# Altium schematic symbol library SparkFun-RF.SCHLIB: 105 symbols (part 2 of 2)
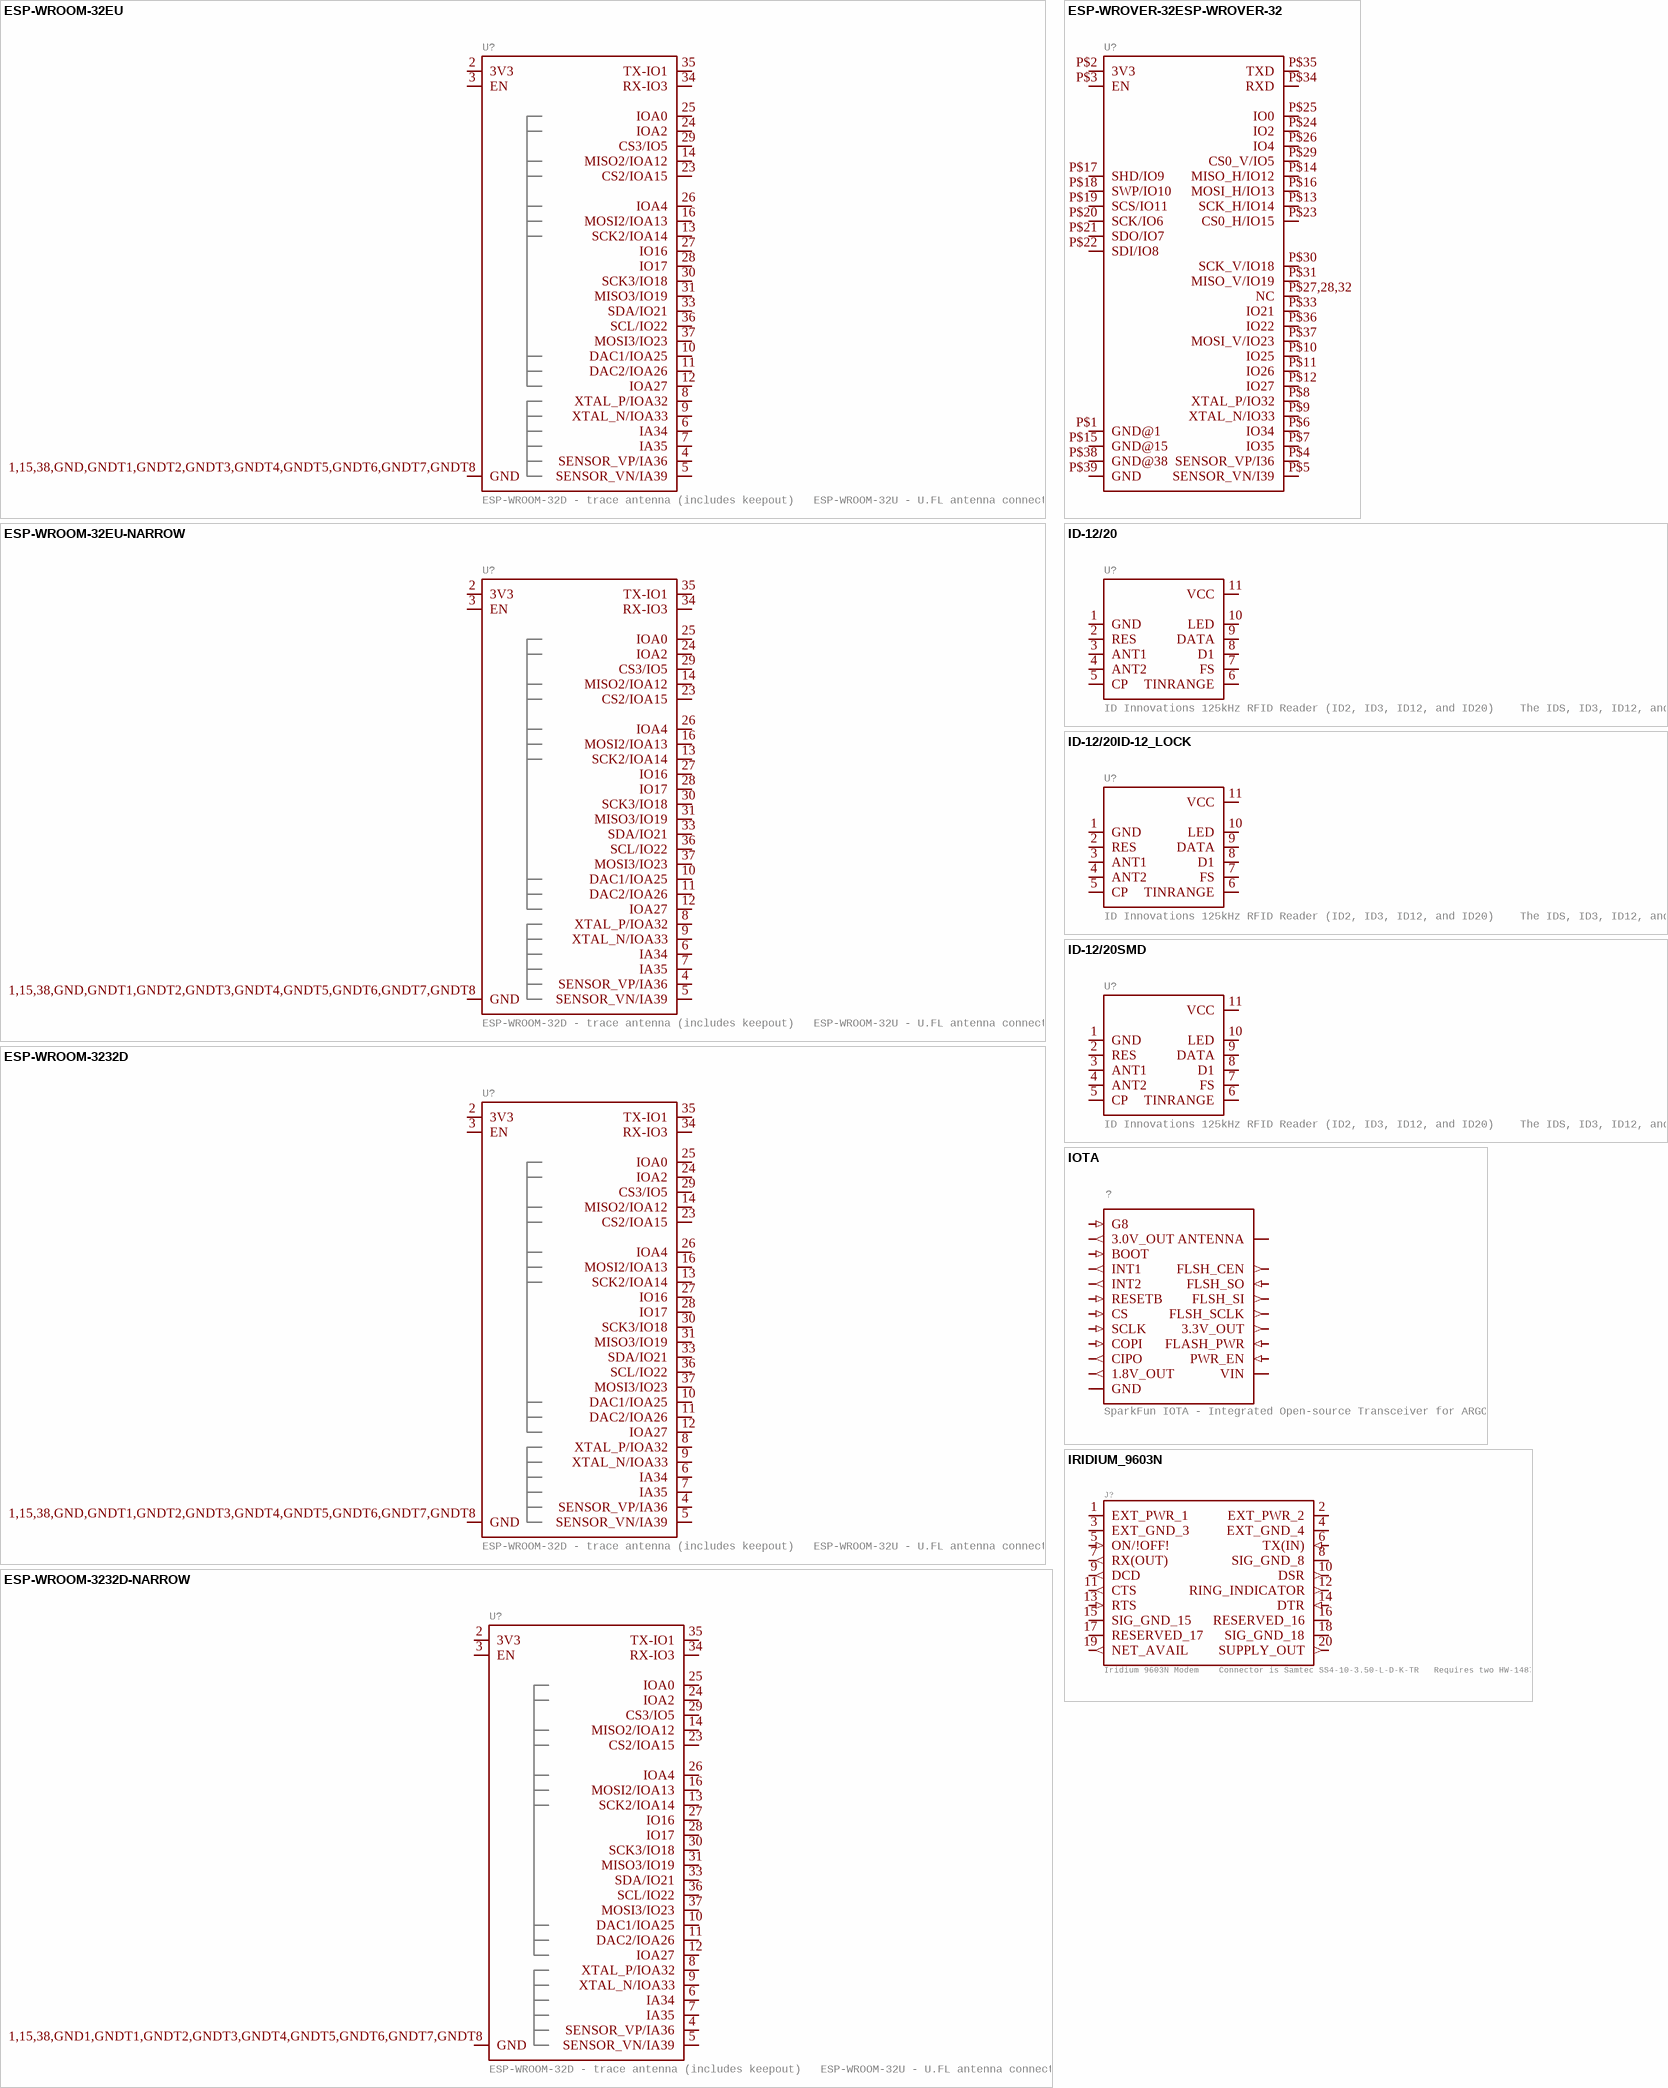
[diagram p11: symbols ESP-WROOM-32EU to IRIDIUM_9603N]

## ESP-WROOM-32EU
designator U?, comment ESP-WROOM-32D - trace antenna (includes keepout)   ESP-WROOM-32U - U.FL antenna connector   Includes both "standard" footprints and "narrow" version (for use with tighter layouts).
GateName_1: U1; DeviceName: EU; PROD_ID: IC-15442; SymbolName_1: ESP-WROOM-32; LibraryName: SparkFun-RF; DeviceSetName: ESP-WROOM-32; Package: ESP-WROOM-32EU
footprint ESP-WROOM-32EU
pins: 1,15,38,GND,GNDT1,GNDT2,GNDT3,GNDT4,GNDT5,GNDT6,GNDT7,GNDT8 GND (io), 2 3V3 (io), 3 EN (io), 4 SENSOR_VP/IA36 (io), 5 SENSOR_VN/IA39 (io), 6 IA34 (io), 7 IA35 (io), 8 XTAL_P/IOA32 (io), 9 XTAL_N/IOA33 (io), 10 DAC1/IOA25 (io), 11 DAC2/IOA26 (io), 12 IOA27 (io), 13 SCK2/IOA14 (io), 14 MISO2/IOA12 (io), 16 MOSI2/IOA13 (io), 23 CS2/IOA15 (io), 24 IOA2 (io), 25 IOA0 (io), 26 IOA4 (io), 27 IO16 (io), 28 IO17 (io), 29 CS3/IO5 (io), 30 SCK3/IO18 (io), 31 MISO3/IO19 (io), 33 SDA/IO21 (io), 34 RX-IO3 (io), 35 TX-IO1 (io), 36 SCL/IO22 (io), 37 MOSI3/IO23 (io)

## ESP-WROOM-32EU-NARROW
designator U?, comment ESP-WROOM-32D - trace antenna (includes keepout)   ESP-WROOM-32U - U.FL antenna connector   Includes both "standard" footprints and "narrow" version (for use with tighter layouts).
GateName_1: U1; DeviceName: EU-NARROW; PROD_ID: IC-15442; SymbolName_1: ESP-WROOM-32; LibraryName: SparkFun-RF; DeviceSetName: ESP-WROOM-32; Package: ESP-WROOM-32EU-NARROW
footprint ESP-WROOM-32EU-NARROW
pins: 1,15,38,GND,GNDT1,GNDT2,GNDT3,GNDT4,GNDT5,GNDT6,GNDT7,GNDT8 GND (io), 2 3V3 (io), 3 EN (io), 4 SENSOR_VP/IA36 (io), 5 SENSOR_VN/IA39 (io), 6 IA34 (io), 7 IA35 (io), 8 XTAL_P/IOA32 (io), 9 XTAL_N/IOA33 (io), 10 DAC1/IOA25 (io), 11 DAC2/IOA26 (io), 12 IOA27 (io), 13 SCK2/IOA14 (io), 14 MISO2/IOA12 (io), 16 MOSI2/IOA13 (io), 23 CS2/IOA15 (io), 24 IOA2 (io), 25 IOA0 (io), 26 IOA4 (io), 27 IO16 (io), 28 IO17 (io), 29 CS3/IO5 (io), 30 SCK3/IO18 (io), 31 MISO3/IO19 (io), 33 SDA/IO21 (io), 34 RX-IO3 (io), 35 TX-IO1 (io), 36 SCL/IO22 (io), 37 MOSI3/IO23 (io)

## ESP-WROOM-3232D
designator U?, comment ESP-WROOM-32D - trace antenna (includes keepout)   ESP-WROOM-32U - U.FL antenna connector   Includes both "standard" footprints and "narrow" version (for use with tighter layouts).
GateName_1: U1; DeviceName: 32D; PROD_ID: IC-15676; SymbolName_1: ESP-WROOM-32; LibraryName: SparkFun-RF; DeviceSetName: ESP-WROOM-32; Package: ESP-WROOM-32D
footprint ESP-WROOM-32D
pins: 1,15,38,GND,GNDT1,GNDT2,GNDT3,GNDT4,GNDT5,GNDT6,GNDT7,GNDT8 GND (io), 2 3V3 (io), 3 EN (io), 4 SENSOR_VP/IA36 (io), 5 SENSOR_VN/IA39 (io), 6 IA34 (io), 7 IA35 (io), 8 XTAL_P/IOA32 (io), 9 XTAL_N/IOA33 (io), 10 DAC1/IOA25 (io), 11 DAC2/IOA26 (io), 12 IOA27 (io), 13 SCK2/IOA14 (io), 14 MISO2/IOA12 (io), 16 MOSI2/IOA13 (io), 23 CS2/IOA15 (io), 24 IOA2 (io), 25 IOA0 (io), 26 IOA4 (io), 27 IO16 (io), 28 IO17 (io), 29 CS3/IO5 (io), 30 SCK3/IO18 (io), 31 MISO3/IO19 (io), 33 SDA/IO21 (io), 34 RX-IO3 (io), 35 TX-IO1 (io), 36 SCL/IO22 (io), 37 MOSI3/IO23 (io)

## ESP-WROOM-3232D-NARROW
designator U?, comment ESP-WROOM-32D - trace antenna (includes keepout)   ESP-WROOM-32U - U.FL antenna connector   Includes both "standard" footprints and "narrow" version (for use with tighter layouts).
GateName_1: U1; DeviceName: 32D-NARROW; PROD_ID: IC-15676; SymbolName_1: ESP-WROOM-32; LibraryName: SparkFun-RF; DeviceSetName: ESP-WROOM-32; Package: ESP-WROOM-32D-NARROW
footprint ESP-WROOM-32D-NARROW
pins: 1,15,38,GND1,GNDT1,GNDT2,GNDT3,GNDT4,GNDT5,GNDT6,GNDT7,GNDT8 GND (io), 2 3V3 (io), 3 EN (io), 4 SENSOR_VP/IA36 (io), 5 SENSOR_VN/IA39 (io), 6 IA34 (io), 7 IA35 (io), 8 XTAL_P/IOA32 (io), 9 XTAL_N/IOA33 (io), 10 DAC1/IOA25 (io), 11 DAC2/IOA26 (io), 12 IOA27 (io), 13 SCK2/IOA14 (io), 14 MISO2/IOA12 (io), 16 MOSI2/IOA13 (io), 23 CS2/IOA15 (io), 24 IOA2 (io), 25 IOA0 (io), 26 IOA4 (io), 27 IO16 (io), 28 IO17 (io), 29 CS3/IO5 (io), 30 SCK3/IO18 (io), 31 MISO3/IO19 (io), 33 SDA/IO21 (io), 34 RX-IO3 (io), 35 TX-IO1 (io), 36 SCL/IO22 (io), 37 MOSI3/IO23 (io)

## ESP-WROVER-32ESP-WROVER-32
designator U?
GateName_1: G$1; SymbolName_1: ESP-WROVER-32; DeviceName: ESP-WROVER-32; LibraryName: SparkFun-RF; DeviceSetName: ESP-WROVER-32; Package: ESP-WROVER-32
footprint ESP-WROVER-32
pins: P$1 GND@1 (io), P$2 3V3 (io), P$3 EN (io), P$4 SENSOR_VP/I36 (io), P$5 SENSOR_VN/I39 (io), P$6 IO34 (io), P$7 IO35 (io), P$8 XTAL_P/IO32 (io), P$9 XTAL_N/IO33 (io), P$10 IO25 (io), P$11 IO26 (io), P$12 IO27 (io), P$13 SCK_H/IO14 (io), P$14 MISO_H/IO12 (io), P$15 GND@15 (io), P$16 MOSI_H/IO13 (io), P$17 SHD/IO9 (io), P$18 SWP/IO10 (io), P$19 SCS/IO11 (io), P$20 SCK/IO6 (io), P$21 SDO/IO7 (io), P$22 SDI/IO8 (io), P$23 CS0_H/IO15 (io), P$24 IO2 (io), P$25 IO0 (io), P$26 IO4 (io), P$27,28,32 NC (io), P$29 CS0_V/IO5 (io), P$30 SCK_V/IO18 (io), P$31 MISO_V/IO19 (io), P$33 IO21 (io), P$34 RXD (io), P$35 TXD (io), P$36 IO22 (io), P$37 MOSI_V/IO23 (io), P$38 GND@38 (io), P$39 GND (io)

## ID-12/20
designator U?, comment ID Innovations 125kHz RFID Reader (ID2, ID3, ID12, and ID20)    The IDS, ID3, ID12, and ID20 are very simple to use RFID reader modules. Power the module, hold up a 125kHz card, and get a serial string output containing the unique ID of the card.   SparkFun Products RFID Reader ID-3LA (125 kHz) (SEN-11862)  RFID Reader ID-12LA (125 kHz) (SEN-11827)  RFID Reader ID-20LA (125 kHz) (SEN-11828)  SparkFun RFID USB Reader (SEN-9963)
GateName_1: G$1; SymbolName_1: ID-12; DeviceSetName: ID-12/20; PROD_ID: CONN-08875; LibraryName: SparkFun-RF; Package: ID-12
footprint ID-12
pins: 1 GND (io), 2 RES (io), 3 ANT1 (io), 4 ANT2 (io), 5 CP (io), 6 TINRANGE (io), 7 FS (io), 8 D1 (io), 9 DATA (io), 10 LED (io), 11 VCC (io)

## ID-12/20ID-12_LOCK
designator U?, comment ID Innovations 125kHz RFID Reader (ID2, ID3, ID12, and ID20)    The IDS, ID3, ID12, and ID20 are very simple to use RFID reader modules. Power the module, hold up a 125kHz card, and get a serial string output containing the unique ID of the card.   SparkFun Products RFID Reader ID-3LA (125 kHz) (SEN-11862)  RFID Reader ID-12LA (125 kHz) (SEN-11827)  RFID Reader ID-20LA (125 kHz) (SEN-11828)  SparkFun RFID USB Reader (SEN-9963)
GateName_1: G$1; SymbolName_1: ID-12; DeviceName: ID-12_LOCK; DeviceSetName: ID-12/20; PROD_ID: CONN-08875; LibraryName: SparkFun-RF; Package: ID-12_LOCK
footprint ID-12_LOCK
pins: 1 GND (io), 2 RES (io), 3 ANT1 (io), 4 ANT2 (io), 5 CP (io), 6 TINRANGE (io), 7 FS (io), 8 D1 (io), 9 DATA (io), 10 LED (io), 11 VCC (io)

## ID-12/20SMD
designator U?, comment ID Innovations 125kHz RFID Reader (ID2, ID3, ID12, and ID20)    The IDS, ID3, ID12, and ID20 are very simple to use RFID reader modules. Power the module, hold up a 125kHz card, and get a serial string output containing the unique ID of the card.   SparkFun Products RFID Reader ID-3LA (125 kHz) (SEN-11862)  RFID Reader ID-12LA (125 kHz) (SEN-11827)  RFID Reader ID-20LA (125 kHz) (SEN-11828)  SparkFun RFID USB Reader (SEN-9963)
GateName_1: G$1; SymbolName_1: ID-12; DeviceName: SMD; DeviceSetName: ID-12/20; PROD_ID: CONN-09345, CONN-09344; LibraryName: SparkFun-RF; Package: ID-12_SMD
footprint ID-12_SMD
pins: 1 GND (io), 2 RES (io), 3 ANT1 (io), 4 ANT2 (io), 5 CP (io), 6 TINRANGE (io), 7 FS (io), 8 D1 (io), 9 DATA (io), 10 LED (io), 11 VCC (io)

## IOTA
designator ?, comment SparkFun IOTA - Integrated Open-source Transceiver for ARGOS
GateName_1: G$1; PROD_ID: SUB-15839; SymbolName_1: IOTA; LibraryName: SparkFun-RF; DeviceSetName: IOTA; Package: IOTA
footprint IOTA
pins: 1 G8 (in), 2 3.0V_OUT (out), 3 BOOT (in), 4 INT1 (out), 5 INT2 (out), 6 RESETB (in), 7 CS (in), 8 SCLK (in), 9 COPI (in), 10 CIPO (out), 11 1.8V_OUT (out), 12,13,22,24 GND (power), 14 VIN (power), 15 PWR_EN (in), 16 FLASH_PWR (in), 17 3.3V_OUT (out), 18 FLSH_SCLK (out), 19 FLSH_SI (out), 20 FLSH_SO (in), 21 FLSH_CEN (out), 23 ANTENNA (io)

## IRIDIUM_9603N
designator J?, comment Iridium 9603N Modem    Connector is Samtec SS4-10-3.50-L-D-K-TR   Requires two HW-14879 M2x0.4 6mm-tall reflow standoffs. The position of the standoffs is shown on the footprint tDocu.
GateName_1: G$1; SymbolName_1: IRIDIUM_9603N; PROD_ID: CONN-14689; LibraryName: SparkFun-RF; DeviceSetName: IRIDIUM_9603N; Package: IRIDIUM_9603N
footprint IRIDIUM_9603N
pins: 1 EXT_PWR_1 (power), 2 EXT_PWR_2 (power), 3 EXT_GND_3 (power), 4 EXT_GND_4 (power), 5 ON/!OFF! (in), 6 TX(IN) (in), 7 RX(OUT) (out), 8 SIG_GND_8 (power), 9 DCD (out), 10 DSR (out), 11 CTS (out), 12 RING_INDICATOR (out), 13 RTS (in), 14 DTR (in), 15 SIG_GND_15 (power), 16 RESERVED_16, 17 RESERVED_17, 18 SIG_GND_18 (power), 19 NET_AVAIL (out), 20 SUPPLY_OUT (out)

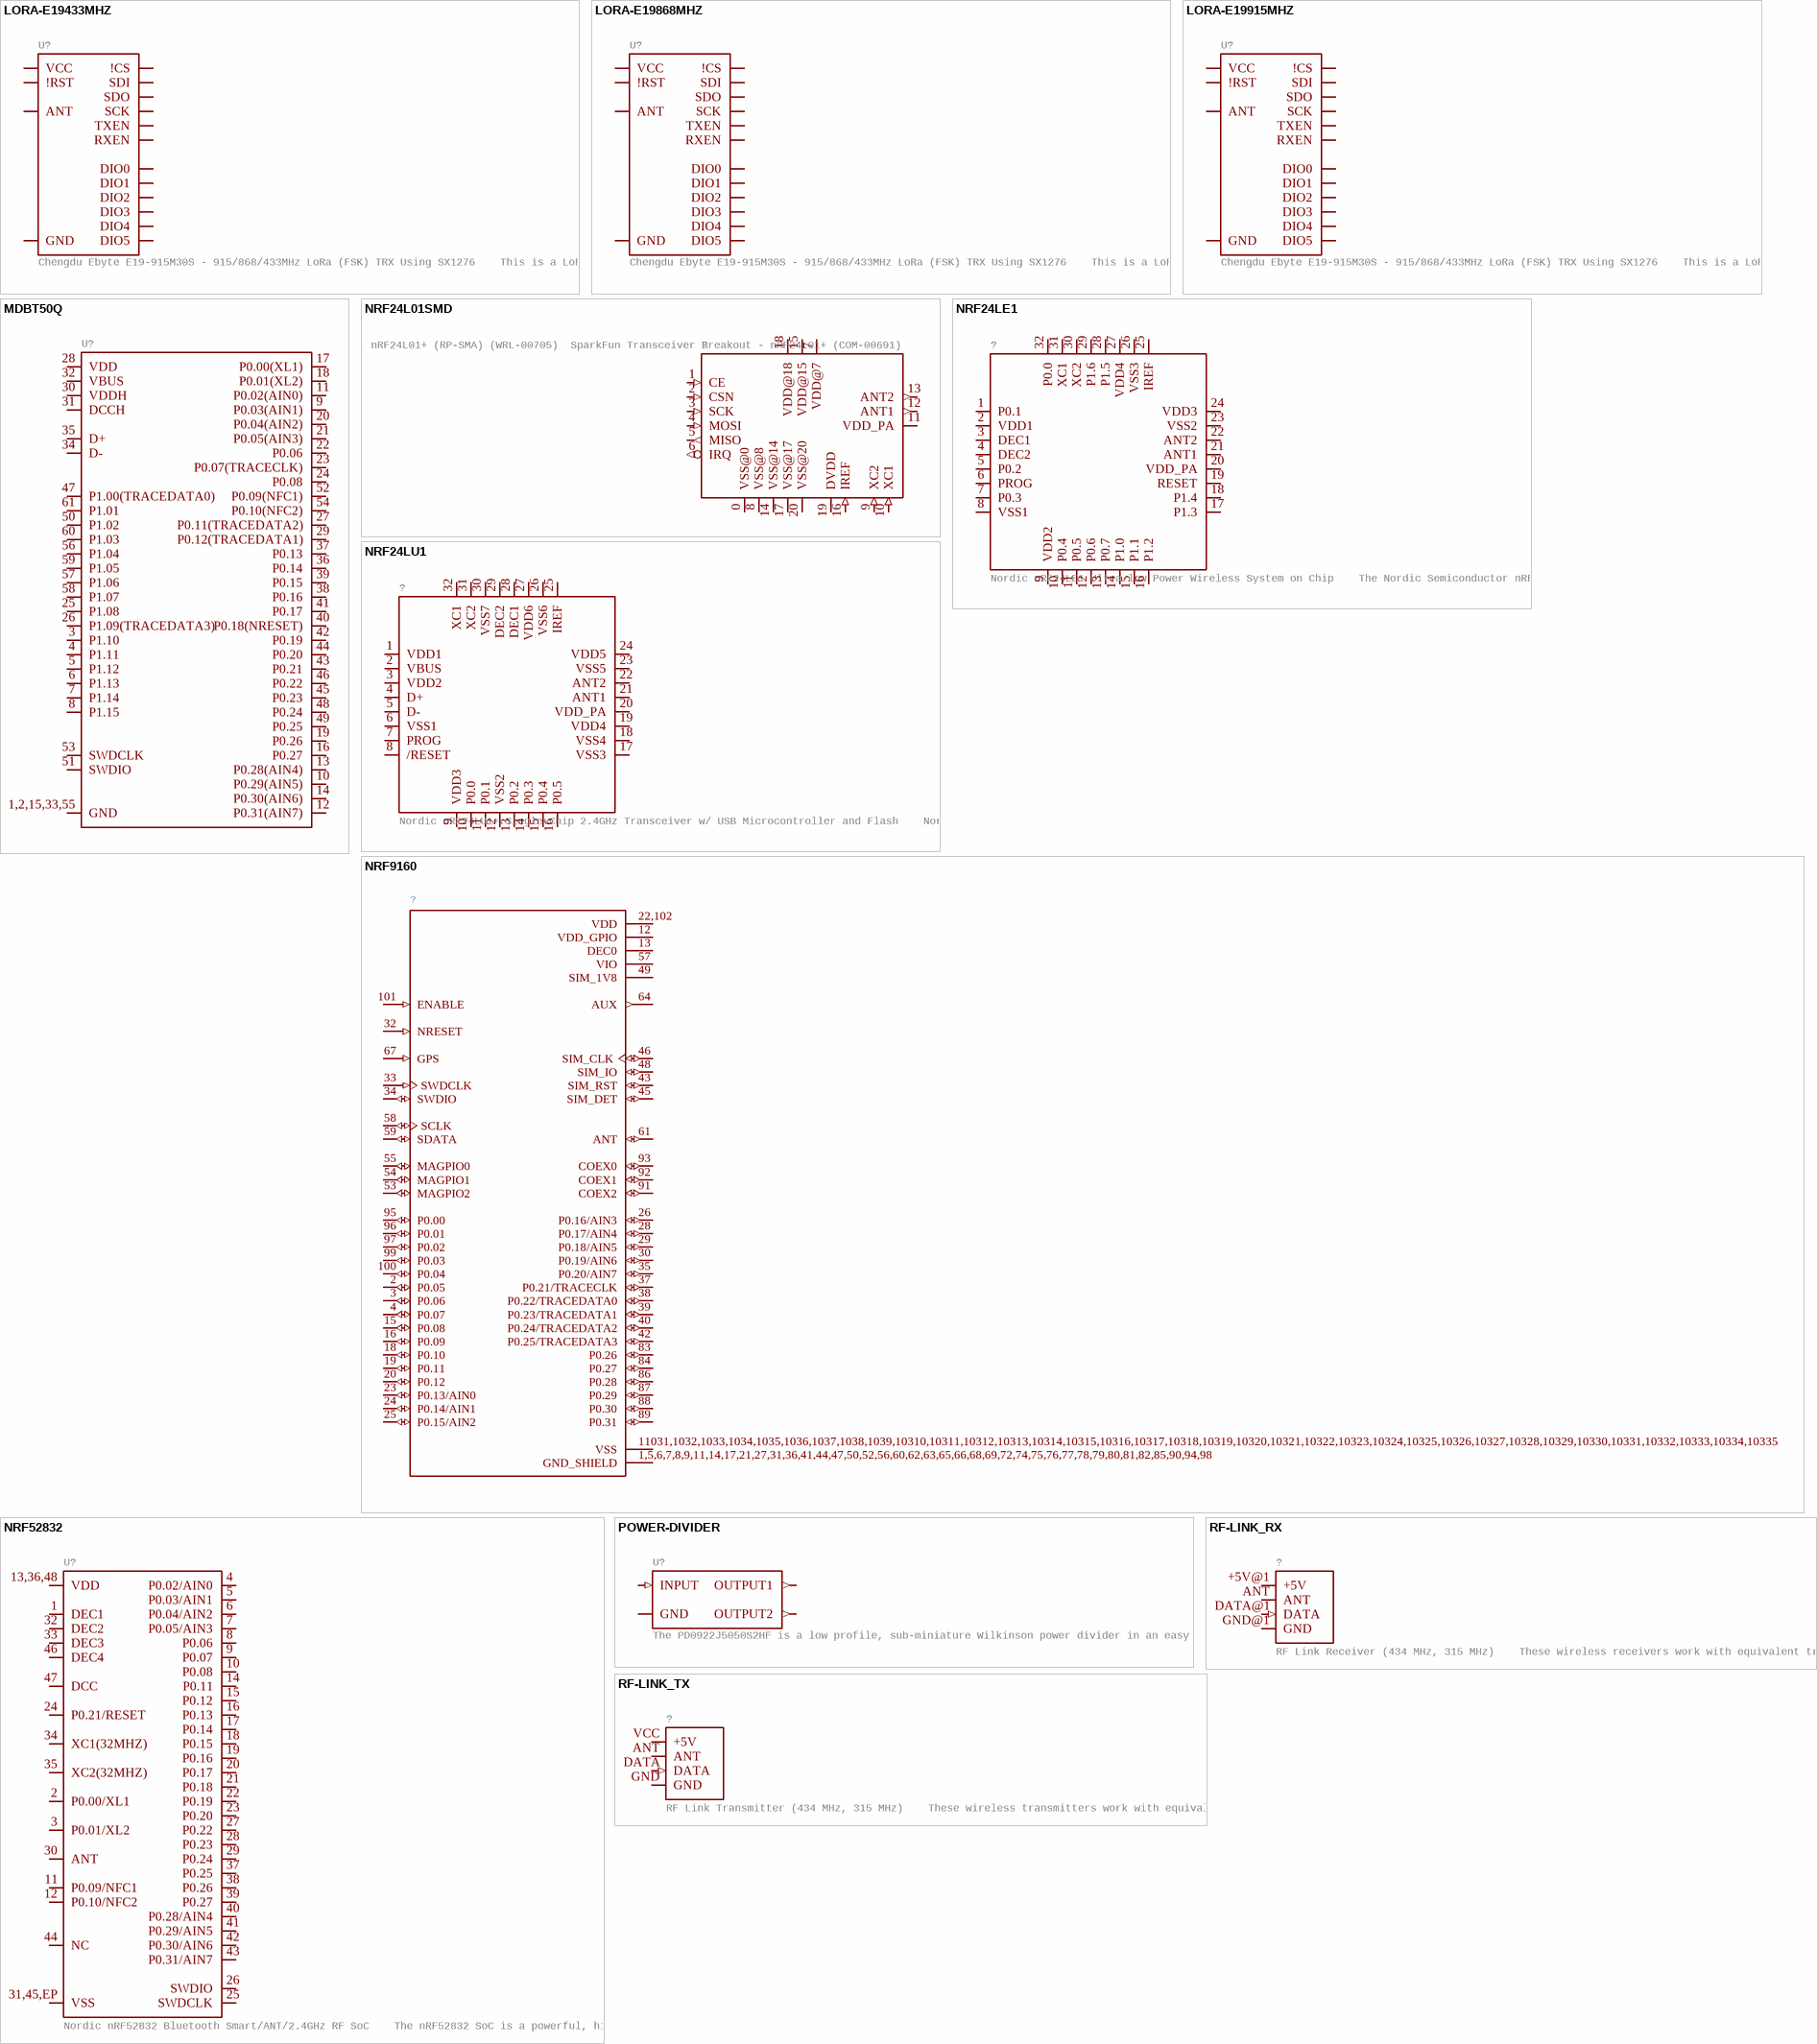
[diagram p7: symbols LORA-E19433MHZ to RF-LINK_TX]

## LORA-E19433MHZ
designator U?, comment Chengdu Ebyte E19-915M30S - 915/868/433MHz LoRa (FSK) TRX Using SX1276    This is a LoRa (or optionally FSK) modulated transciver bassed on the Semtech SX1276. It has a high ouput power of 1W an a pre-installed U.FL connector. Can be used with LoRa WAN with DIO0, DIO1, and DIO2 hooked up to controller interrupt inputs   SparkFun Products: SAMD21 Pro RF 1W
GateName_1: U1; DeviceName: 433MHZ; DeviceSetName: LORA-E19; PROD_ID: IC-16574; SymbolName_1: E19-915M30S; LibraryName: SparkFun-RF; Package: E19-433M30S
footprint E19-433M30S
pins: 1,9,10,18,20,21,22 GND (io), 2 DIO5 (io), 3 DIO4 (io), 4 DIO3 (io), 5 DIO2 (io), 6 DIO1 (io), 7 DIO0 (io), 8 !RST (io), 11 VCC (io), 12 SCK (io), 13 SDO (io), 14 SDI (io), 15 !CS (io), 16 TXEN (io), 17 RXEN (io), 19 ANT (io)

## LORA-E19868MHZ
designator U?, comment Chengdu Ebyte E19-915M30S - 915/868/433MHz LoRa (FSK) TRX Using SX1276    This is a LoRa (or optionally FSK) modulated transciver bassed on the Semtech SX1276. It has a high ouput power of 1W an a pre-installed U.FL connector. Can be used with LoRa WAN with DIO0, DIO1, and DIO2 hooked up to controller interrupt inputs   SparkFun Products: SAMD21 Pro RF 1W
GateName_1: U1; DeviceName: 868MHZ; DeviceSetName: LORA-E19; PROD_ID: IC-16573; SymbolName_1: E19-915M30S; LibraryName: SparkFun-RF; Package: E19-915M30S
footprint E19-915M30S
pins: 1,9,10,18,20,21,22 GND (io), 2 DIO5 (io), 3 DIO4 (io), 4 DIO3 (io), 5 DIO2 (io), 6 DIO1 (io), 7 DIO0 (io), 8 !RST (io), 11 VCC (io), 12 SCK (io), 13 SDO (io), 14 SDI (io), 15 !CS (io), 16 TXEN (io), 17 RXEN (io), 19 ANT (io)

## LORA-E19915MHZ
designator U?, comment Chengdu Ebyte E19-915M30S - 915/868/433MHz LoRa (FSK) TRX Using SX1276    This is a LoRa (or optionally FSK) modulated transciver bassed on the Semtech SX1276. It has a high ouput power of 1W an a pre-installed U.FL connector. Can be used with LoRa WAN with DIO0, DIO1, and DIO2 hooked up to controller interrupt inputs   SparkFun Products: SAMD21 Pro RF 1W
GateName_1: U1; DeviceName: 915MHZ; DeviceSetName: LORA-E19; PROD_ID: IC-14076; SymbolName_1: E19-915M30S; LibraryName: SparkFun-RF; Package: E19-915M30S
footprint E19-915M30S
pins: 1,9,10,18,20,21,22 GND (io), 2 DIO5 (io), 3 DIO4 (io), 4 DIO3 (io), 5 DIO2 (io), 6 DIO1 (io), 7 DIO0 (io), 8 !RST (io), 11 VCC (io), 12 SCK (io), 13 SDO (io), 14 SDI (io), 15 !CS (io), 16 TXEN (io), 17 RXEN (io), 19 ANT (io)

## MDBT50Q
designator U?
GateName_1: G$1; SymbolName_1: MDBT50Q; PROD_ID: IC-14109; LibraryName: SparkFun-RF; DeviceSetName: MDBT50Q; Package: MDBT50Q
footprint MDBT50Q
pins: 1,2,15,33,55 GND (io), 3 P1.10 (io), 4 P1.11 (io), 5 P1.12 (io), 6 P1.13 (io), 7 P1.14 (io), 8 P1.15 (io), 9 P0.03(AIN1) (io), 10 P0.29(AIN5) (io), 11 P0.02(AIN0) (io), 12 P0.31(AIN7) (io), 13 P0.28(AIN4) (io), 14 P0.30(AIN6) (io), 16 P0.27 (io), 17 P0.00(XL1) (io), 18 P0.01(XL2) (io), 19 P0.26 (io), 20 P0.04(AIN2) (io), 21 P0.05(AIN3) (io), 22 P0.06 (io), 23 P0.07(TRACECLK) (io), 24 P0.08 (io), 25 P1.08 (io), 26 P1.09(TRACEDATA3) (io), 27 P0.11(TRACEDATA2) (io), 28 VDD (io), 29 P0.12(TRACEDATA1) (io), 30 VDDH (io), 31 DCCH (io), 32 VBUS (io), 34 D- (io), 35 D+ (io), 36 P0.14 (io), 37 P0.13 (io), 38 P0.16 (io), 39 P0.15 (io), 40 P0.18(NRESET) (io), 41 P0.17 (io), 42 P0.19 (io), 43 P0.21 (io), 44 P0.20 (io), 45 P0.23 (io), 46 P0.22 (io), 47 P1.00(TRACEDATA0) (io), 48 P0.24 (io), 49 P0.25 (io), 50 P1.02 (io), 51 SWDIO (io), 52 P0.09(NFC1) (io), 53 SWDCLK (io), 54 P0.10(NFC2) (io), 56 P1.04 (io), 57 P1.06 (io), 58 P1.07 (io), 59 P1.05 (io), 60 P1.03 (io), 61 P1.01 (io)

## NRF24L01SMD
designator ?, comment Nordic nrf24L01 2.4GHz Low-power Transceiver    This is the very popular, low cost, very low power RF transceiver from Nordic Semiconductor. Simple SPI interface.   SparkFun Products 2.4GHz Transceiver IC - nRF24L01+ (COM-00690)  SparkFun Transceiver Breakout - nRF24L01+ (RP-SMA) (WRL-00705)  SparkFun Transceiver Breakout - nRF24L01+ (COM-00691)
GateName_1: G$1; SymbolName_1: NRF24L01-1; DeviceName: SMD; PROD_ID: IC-08950; LibraryName: SparkFun-RF; DeviceSetName: NRF24L01; Package: QFN20-4X4MM; SF_ID: COM-00690
footprint QFN20-4X4MM
pins: 0 VSS@0 (power), 1 CE (in), 2 CSN (in), 3 SCK (in), 4 MOSI (in), 5 MISO (out), 6 IRQ (out), 7 VDD@7 (power), 8 VSS@8 (power), 9 XC2 (in), 10 XC1 (in), 11 VDD_PA (power), 12 ANT1 (out), 13 ANT2 (out), 14 VSS@14 (power), 15 VDD@15 (power), 16 IREF (in), 17 VSS@17 (power), 18 VDD@18 (power), 19 DVDD (power), 20 VSS@20 (power)

## NRF24LE1
designator ?, comment Nordic nRF24LE1 Ultra-low Power Wireless System on Chip    The Nordic Semiconductor nRF24LE1 is a 2.4GHz ISM band radio with emhanced 8051 MCU, up to 2Mbps on air data rate, 1.9 to 3.6V supply range, 16-32-bit multiplication-division co-processor (MDU), 16 kBytes of on-chip Flash, 1 kBytes on SRAM, 1 kBytes NV data memory, 512 Bytes NV data memory (extended endurance), Interrupt controller with 18 sources and 4 priority levels, 1 Analog comparator, 10 Bit ADC, Hardware SPI slave and master, UART, three 16-bit timers/counters, AES encryption/decryption co-processor, Random number generator, 2-Wire interface, 2 Channel PWM, 7, 15, or 31 GPIO lines, On-chip hardware debug support for a JTAG debugger.
GateName_1: G$1; PROD_ID: IC-09044; SymbolName_1: NRF24LE1; LibraryName: SparkFun-RF; DeviceSetName: NRF24LE1; Package: QFN-32-5X5MM
footprint QFN-32-5X5MM
pins: 1 P0.1 (io), 2 VDD1 (io), 3 DEC1 (io), 4 DEC2 (io), 5 P0.2 (io), 6 PROG (io), 7 P0.3 (io), 8 VSS1 (io), 9 VDD2 (io), 10 P0.4 (io), 11 P0.5 (io), 12 P0.6 (io), 13 P0.7 (io), 14 P1.0 (io), 15 P1.1 (io), 16 P1.2 (io), 17 P1.3 (io), 18 P1.4 (io), 19 RESET (io), 20 VDD_PA (io), 21 ANT1 (io), 22 ANT2 (io), 23 VSS2 (io), 24 VDD3 (io), 25 IREF (io), 26 VSS3 (io), 27 VDD4 (io), 28 P1.5 (io), 29 P1.6 (io), 30 XC2 (io), 31 XC1 (io), 32 P0.0 (io)

## NRF24LU1
designator ?, comment Nordic nRF24LU1+ Single-Chip 2.4GHz Transceiver w/ USB Microcontroller and Flash    Nordicâ€™s nRF24LU1+ is a complete system-on-chip wireless transceiver. The nRF24LU1+ features a fully integrated USB 2.0 compliant device controller, which makes this chip a great choice for a compact wireless USB dongle. The nRF24LU1+ is compatible with our nRF24L01+ 2.4GHz RF transceivers as well. Additional features include an 8-bit application microcontroller, 32 kB flash memory, 6 GPIO pins, SPI and UART support, and up to 2Mbps on air data rates.   SparkFun Products 2.4GHz Transceiver IC - nRF24LU1+ (COM-09525)
GateName_1: G$1; PROD_ID: IC-09045; SymbolName_1: NRF24LU1; LibraryName: SparkFun-RF; DeviceSetName: NRF24LU1; Package: QFN-32-5X5MM
footprint QFN-32-5X5MM
pins: 1 VDD1 (io), 2 VBUS (io), 3 VDD2 (io), 4 D+ (io), 5 D- (io), 6 VSS1 (io), 7 PROG (io), 8 /RESET (io), 9 VDD3 (io), 10 P0.0 (io), 11 P0.1 (io), 12 VSS2 (io), 13 P0.2 (io), 14 P0.3 (io), 15 P0.4 (io), 16 P0.5 (io), 17 VSS3 (io), 18 VSS4 (io), 19 VDD4 (io), 20 VDD_PA (io), 21 ANT1 (io), 22 ANT2 (io), 23 VSS5 (io), 24 VDD5 (io), 25 IREF (io), 26 VSS6 (io), 27 VDD6 (io), 28 DEC1 (io), 29 DEC2 (io), 30 VSS7 (io), 31 XC2 (io), 32 XC1 (io)

## NRF9160
designator ?
GateName_1: G$1; SymbolName_1: NRF9160; PROD_ID: IC-15418; LibraryName: SparkFun-RF; DeviceSetName: NRF9160; Package: NRF9160-LGA
footprint NRF9160-LGA
pins: 1,5,6,7,8,9,11,14,17,21,27,31,36,41,44,47,50,52,56,60,62,63,65,66,68,69,72,74,75,76,77,78,79,80,81,82,85,90,94,98 GND_SHIELD (power), 2 P0.05 (io), 3 P0.06 (io), 4 P0.07 (io), 12 VDD_GPIO (power), 13 DEC0 (power), 15 P0.08 (io), 16 P0.09 (io), 18 P0.10 (io), 19 P0.11 (io), 20 P0.12 (io), 22,102 VDD (power), 23 P0.13/AIN0 (io), 24 P0.14/AIN1 (io), 25 P0.15/AIN2 (io), 26 P0.16/AIN3 (io), 28 P0.17/AIN4 (io), 29 P0.18/AIN5 (io), 30 P0.19/AIN6 (io), 32 NRESET (in), 33 SWDCLK (in), 34 SWDIO (io), 35 P0.20/AIN7 (io), 37 P0.21/TRACECLK (io), 38 P0.22/TRACEDATA0 (io), 39 P0.23/TRACEDATA1 (io), 40 P0.24/TRACEDATA2 (io), 42 P0.25/TRACEDATA3 (io), 43 SIM_RST (io), 45 SIM_DET (io), 46 SIM_CLK (io), 48 SIM_IO (io), 49 SIM_1V8 (power), 53 MAGPIO2 (io), 54 MAGPIO1 (io), 55 MAGPIO0 (io), 57 VIO (power), 58 SCLK (io), 59 SDATA (io), 61 ANT (io), 64 AUX (out), 67 GPS (in), 83 P0.26 (io), 84 P0.27 (io), 86 P0.28 (io), 87 P0.29 (io), 88 P0.30 (io), 89 P0.31 (io), 91 COEX2 (io), 92 COEX1 (io), 93 COEX0 (io), 95 P0.00 (io), 96 P0.01 (io), 97 P0.02 (io), 99 P0.03 (io), 100 P0.04 (io), 101 ENABLE (in), 11031,1032,1033,1034,1035,1036,1037,1038,1039,10310,10311,10312,10313,10314,10315,10316,10317,10318,10319,10320,10321,10322,10323,10324,10325,10326,10327,10328,10329,10330,10331,10332,10333,10334,10335 VSS (power)

## NRF52832
designator U?, comment Nordic nRF52832 Bluetooth Smart/ANT/2.4GHz RF SoC    The nRF52832 SoC is a powerful, highly flexible ultra-low power multiprotocol SoC ideally suited for BluetoothÂ® Smart ANT and 2.4GHz ultra low-power wireless applications.  The nRF52832 SoC is built around a 32-bit ARMÂ® Cortexâ„¢-M4F CPU with 512kB + 64kB RAM. The embedded 2.4GHz transceiver supports Bluetooth Smart, ANT and proprietary 2.4 GHz protocol stack.  It is on air compatible with the nRF51 Series, nRF24L and nRF24AP Series products from Nordic Semiconductor.   Datasheet   SparkFun Products: SparkFun nRF52832 Breakout
GateName_1: G$1; PROD_ID: IC-13460; SymbolName_1: NRF52832; LibraryName: SparkFun-RF; DeviceSetName: NRF52832; Package: QFN48-6X6MM
footprint QFN48-6X6MM
pins: 1 DEC1 (io), 2 P0.00/XL1 (io), 3 P0.01/XL2 (io), 4 P0.02/AIN0 (io), 5 P0.03/AIN1 (io), 6 P0.04/AIN2 (io), 7 P0.05/AIN3 (io), 8 P0.06 (io), 9 P0.07 (io), 10 P0.08 (io), 11 P0.09/NFC1 (io), 12 P0.10/NFC2 (io), 13,36,48 VDD (io), 14 P0.11 (io), 15 P0.12 (io), 16 P0.13 (io), 17 P0.14 (io), 18 P0.15 (io), 19 P0.16 (io), 20 P0.17 (io), 21 P0.18 (io), 22 P0.19 (io), 23 P0.20 (io), 24 P0.21/RESET (io), 25 SWDCLK (io), 26 SWDIO (io), 27 P0.22 (io), 28 P0.23 (io), 29 P0.24 (io), 30 ANT (io), 31,45,EP VSS (io), 32 DEC2 (io), 33 DEC3 (io), 34 XC1(32MHZ) (io), 35 XC2(32MHZ) (io), 37 P0.25 (io), 38 P0.26 (io), 39 P0.27 (io), 40 P0.28/AIN4 (io), 41 P0.29/AIN5 (io), 42 P0.30/AIN6 (io), 43 P0.31/AIN7 (io), 44 NC (io), 46 DEC4 (io), 47 DCC (io)

## POWER-DIVIDER
designator U?, comment The PD0922J5050S2HF is a low profile, sub-miniature Wilkinson power divider in an easy to use surface mount package. The PD0922J5050S2HF is matched to 50 â„¦ and has a height profile of 0.5 mm which is ideal for high level integrations in the following markets: DVB-S, DVB-H (USA), GSM, DCS, PCS, CDMA, 3G and GPS. The PD0922J5050S2HF does not include the resistive element and therefore, requires an external resistor for operation.
GateName_1: U1; DeviceSetName: POWER-DIVIDER; PROD_ID: IC-16658; SymbolName_1: PD0922J5050S2HF; LibraryName: SparkFun-RF; Package: PD0922J5050S2HF_ANA; DIGI-KEY_PART_NUMBER_1: 1173-1094-2-ND; MANUFACTURER_PART_NUMBER: PD0922J5050S2HF
footprint PD0922J5050S2HF_ANA
pins: 1,3,5 GND, 2 INPUT (in), 4 OUTPUT1 (out), 6 OUTPUT2 (out)

## RF-LINK_RX
designator ?, comment RF Link Receiver (434 MHz, 315 MHz)    These wireless receivers work with equivalent transmitters. They can easily fit into a breadboard and work well with microcontrollers to create a very simple wireless data link. Since these are only receivers, they will only work communicating data one-way, you would need two pairs (of different frequencies) to act as a transmitter/receiver pair..   SparkFun Products RF Link Receiver - 4800bps (434 MHz)(WRL-10532)
GateName_1: G$1; SymbolName_1: RF-LINK_RX; SF_ID: WRL-10533; LibraryName: SparkFun-RF; DeviceSetName: RF-LINK_RX; Package: RF-LINK_RX
footprint RF-LINK_RX
pins: +5V@1 +5V (power), ANT, DATA@1 DATA (in), GND@1 GND (power)

## RF-LINK_TX
designator ?, comment RF Link Transmitter (434 MHz, 315 MHz)    These wireless transmitters work with equivalent receivers. They can easily fit into a breadboard and work well with microcontrollers to create a very simple wireless data link. Since these are only transmitters, they will only work communicating data one-way, you would need two pairs (of different frequencies) to act as a transmitter/receiver pair.   SparkFun Products RF Link Transmitter - 434MHz (WRL-10534)
GateName_1: G$1; SymbolName_1: RF-LINK_TX; LibraryName: SparkFun-RF; DeviceSetName: RF-LINK_TX; Package: RF-LINK_TX; SF_ID: WRL-10534
footprint RF-LINK_TX
pins: ANT, DATA (in), GND (power), VCC +5V (power)

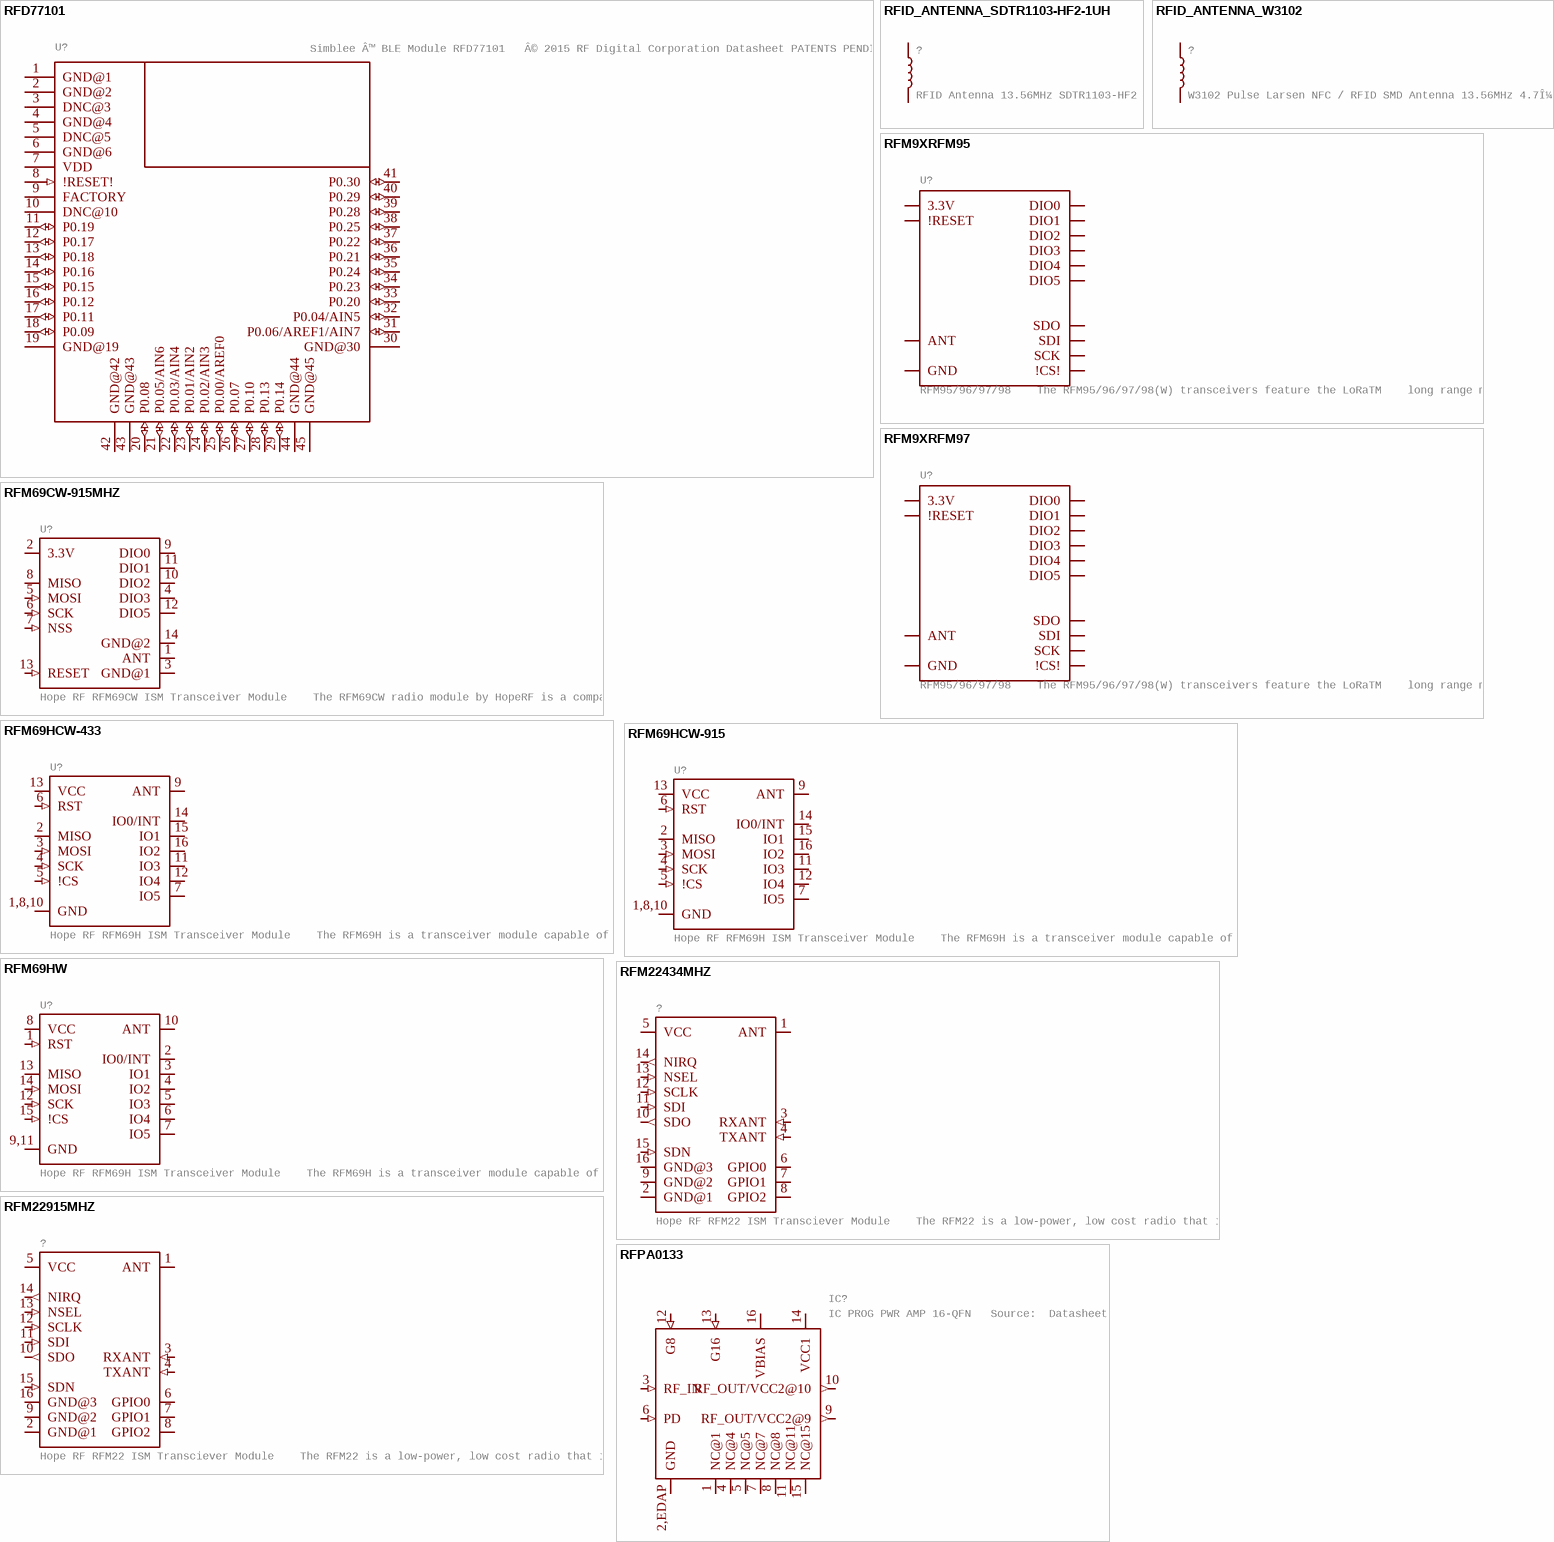
[diagram p8: symbols RFD77101 to RFPA0133]

## RFD77101
designator U?, comment Simblee Â™ BLE Module RFD77101   Â© 2015 RF Digital Corporation Datasheet PATENTS PENDING 04.01.2015   Bluetooth Smart radio transceiver, ARM Cortex M0 microcontroller.   128kB Flash, 24kB RAM, no EEPROM   Arduino-compatible.    SparkFun Products: Simblee BLE Module - RFD77101  SparkFun Simblee BLE Breakout - RFD77101
GateName_1: G$1; PROD_ID: COMP-13237; SF_ID: WRL-13808; SymbolName_1: RFD77101; LibraryName: SparkFun-RF; DeviceSetName: RFD77101; Package: RFD77101
footprint RFD77101
pins: 1 GND@1 (power), 2 GND@2 (power), 3 DNC@3, 4 GND@4 (power), 5 DNC@5, 6 GND@6 (power), 7 VDD (power), 8 !RESET! (in), 9 FACTORY, 10 DNC@10, 11 P0.19 (io), 12 P0.17 (io), 13 P0.18 (io), 14 P0.16 (io), 15 P0.15 (io), 16 P0.12 (io), 17 P0.11 (io), 18 P0.09 (io), 19 GND@19 (power), 20 P0.08 (io), 21 P0.05/AIN6 (io), 22 P0.03/AIN4 (io), 23 P0.01/AIN2 (io), 24 P0.02/AIN3 (io), 25 P0.00/AREF0 (io), 26 P0.07 (io), 27 P0.10 (io), 28 P0.13 (io), 29 P0.14 (io), 30 GND@30 (power), 31 P0.06/AREF1/AIN7 (io), 32 P0.04/AIN5 (io), 33 P0.20 (io), 34 P0.23 (io), 35 P0.24 (io), 36 P0.21 (io), 37 P0.22 (io), 38 P0.25 (io), 39 P0.28 (io), 40 P0.29 (io), 41 P0.30 (io), 42 GND@42 (power), 43 GND@43 (power), 44 GND@44 (power), 45 GND@45 (power)

## RFID_ANTENNA_SDTR1103-HF2-1UH
designator ?, comment RFID Antenna 13.56MHz SDTR1103-HF2
MANU_PART: SDTR1103-HF2-0001K; GateName_1: G$1; SymbolName_1: INDUCTIVE_ANTENNA; DeviceName: -1UH; DeviceSetName: RFID_ANTENNA_SDTR1103-HF2; PROD_ID: ANT_16327; LibraryName: SparkFun-RF; Package: SDTR1103-HF2
footprint SDTR1103-HF2
pins: P$1 1, P$2 2

## RFID_ANTENNA_W3102
designator ?, comment W3102 Pulse Larsen NFC / RFID SMD Antenna 13.56MHz 4.7Î¼H
GateName_1: G$1; SymbolName_1: INDUCTIVE_ANTENNA; DeviceSetName: RFID_ANTENNA_W3102; PROD_ID: ANT-16333; LibraryName: SparkFun-RF; Package: W3102
footprint W3102
pins: 1, 2

## RFM9XRFM95
designator U?, comment RFM95/96/97/98    The RFM95/96/97/98(W) transceivers feature the LoRaTM    long range modem that provides ultra-long range spread spectrum communication and high interference immunity whilst minimising current consumption.    These devices also support high performance (G)FSK modes for systems including WMBus, IEEE802.15.4g. The RFM95/96/97/98(W) deliver exceptional phase noise, selectivity, receiver linearity and IIP3 for significantly lower current consumption than competing devices   Datasheet
GateName_1: U1; SymbolName_1: RFM95W; DeviceName: RFM95; DeviceSetName: RFM9X; PROD_ID: IC-13959; LibraryName: SparkFun-RF; Package: RFM95
footprint RFM95
pins: 3.3V (io), !RESET (io), ANT (io), DIO0 (io), DIO1 (io), DIO2 (io), DIO3 (io), DIO4 (io), DIO5 (io), GND@1-3 GND (io), NSS !CS! (io), SCK (io), SDI (io), SDO (io)

## RFM9XRFM97
designator U?, comment RFM95/96/97/98    The RFM95/96/97/98(W) transceivers feature the LoRaTM    long range modem that provides ultra-long range spread spectrum communication and high interference immunity whilst minimising current consumption.    These devices also support high performance (G)FSK modes for systems including WMBus, IEEE802.15.4g. The RFM95/96/97/98(W) deliver exceptional phase noise, selectivity, receiver linearity and IIP3 for significantly lower current consumption than competing devices   Datasheet
GateName_1: U1; SymbolName_1: RFM95W; DeviceName: RFM97; DeviceSetName: RFM9X; PROD_ID: IC-15944; LibraryName: SparkFun-RF; Package: RFM97
footprint RFM97
pins: 3V3 3.3V (io), !CS! (io), !RST !RESET (io), ANT (io), DIO0 (io), DIO1 (io), DIO2 (io), DIO3 (io), DIO4 (io), DIO5 (io), GND,GND@1,GND@2 GND (io), SCK (io), SDI (io), SDO (io)

## RFM69CW-915MHZ
designator U?, comment Hope RF RFM69CW ISM Transceiver Module    The RFM69CW radio module by HopeRF is a compact, powerful radio transceiver module for swapping data packets in the 868 MHz ISM band, using standard and enhanced FSK modulation. The radio is great for sub-compact designs; just 4mm of mounted height from using an SMD precision crystal.   Datasheet
GateName_1: G$1; SymbolName_1: RFM69; DeviceName: CW-915MHZ; PROD_ID: IC-11996; LibraryName: SparkFun-RF; DeviceSetName: RFM69; Package: RFM69CW-XXXS2
footprint RFM69CW-XXXS2
pins: 1 ANT, 2 3.3V (power), 3 GND@1 (power), 4 DIO3 (io), 5 MOSI (in), 6 SCK (in), 7 NSS (in), 8 MISO (io), 9 DIO0 (io), 10 DIO2 (io), 11 DIO1 (io), 12 DIO5 (io), 13 RESET (in), 14 GND@2 (power)

## RFM69HCW-433
designator U?, comment Hope RF RFM69H ISM Transceiver Module    The RFM69H is a transceiver module capable of operation over a wide frequency range, including the 315,433,868 and 915MHz license-free ISM (Industry Scientific and Medical) frequency bands. All major RF communication parameters are programmable and most of them  can  be  dynamically set.  The  RFM69H  offers  the unique advantage of programmable narrow-band and wide- band  communication modes. The RFM69H is optimized for low power consumption while offering high RF output power and channelized operation.Compliance  ETSI and FCC regulations.    Datasheet   SparkFun Products RFM69HCW Wireless Transceiver - 915MHz (COM-13909)  RFM69HCW Wireless Transceiver - 434MHz (COM-13910)  SparkFun RFM69 Breakout (915MHz) (WRL-12775)  SparkFun RFM69 Breakout (434MHz) (WRL-12823)
GateName_1: U1; DeviceName: CW-433; PROD_ID: IC-12053; SymbolName_1: RFM69H; LibraryName: SparkFun-RF; DeviceSetName: RFM69H; Package: RFM69HCW-XXXS2
footprint RFM69HCW-XXXS2
pins: 1,8,10 GND (power), 2 MISO (io), 3 MOSI (in), 4 SCK (in), 5 !CS (in), 6 RST (in), 7 IO5 (io), 9 ANT, 11 IO3 (io), 12 IO4 (io), 13 VCC (power), 14 IO0/INT (io), 15 IO1 (io), 16 IO2 (io)

## RFM69HCW-915
designator U?, comment Hope RF RFM69H ISM Transceiver Module    The RFM69H is a transceiver module capable of operation over a wide frequency range, including the 315,433,868 and 915MHz license-free ISM (Industry Scientific and Medical) frequency bands. All major RF communication parameters are programmable and most of them  can  be  dynamically set.  The  RFM69H  offers  the unique advantage of programmable narrow-band and wide- band  communication modes. The RFM69H is optimized for low power consumption while offering high RF output power and channelized operation.Compliance  ETSI and FCC regulations.    Datasheet   SparkFun Products RFM69HCW Wireless Transceiver - 915MHz (COM-13909)  RFM69HCW Wireless Transceiver - 434MHz (COM-13910)  SparkFun RFM69 Breakout (915MHz) (WRL-12775)  SparkFun RFM69 Breakout (434MHz) (WRL-12823)
GateName_1: U1; DeviceName: CW-915; PROD_ID: IC-11997; SymbolName_1: RFM69H; LibraryName: SparkFun-RF; DeviceSetName: RFM69H; Package: RFM69HCW-XXXS2
footprint RFM69HCW-XXXS2
pins: 1,8,10 GND (power), 2 MISO (io), 3 MOSI (in), 4 SCK (in), 5 !CS (in), 6 RST (in), 7 IO5 (io), 9 ANT, 11 IO3 (io), 12 IO4 (io), 13 VCC (power), 14 IO0/INT (io), 15 IO1 (io), 16 IO2 (io)

## RFM69HW
designator U?, comment Hope RF RFM69H ISM Transceiver Module    The RFM69H is a transceiver module capable of operation over a wide frequency range, including the 315,433,868 and 915MHz license-free ISM (Industry Scientific and Medical) frequency bands. All major RF communication parameters are programmable and most of them  can  be  dynamically set.  The  RFM69H  offers  the unique advantage of programmable narrow-band and wide- band  communication modes. The RFM69H is optimized for low power consumption while offering high RF output power and channelized operation.Compliance  ETSI and FCC regulations.    Datasheet   SparkFun Products RFM69HCW Wireless Transceiver - 915MHz (COM-13909)  RFM69HCW Wireless Transceiver - 434MHz (COM-13910)  SparkFun RFM69 Breakout (915MHz) (WRL-12775)  SparkFun RFM69 Breakout (434MHz) (WRL-12823)
GateName_1: U1; DeviceName: W; SymbolName_1: RFM69H; LibraryName: SparkFun-RF; DeviceSetName: RFM69H; Package: RFM69W-XXXS2
footprint RFM69W-XXXS2
pins: 1 RST (in), 2 IO0/INT (io), 3 IO1 (io), 4 IO2 (io), 5 IO3 (io), 6 IO4 (io), 7 IO5 (io), 8 VCC (power), 9,11 GND (power), 10 ANT, 12 SCK (in), 13 MISO (io), 14 MOSI (in), 15 !CS (in)

## RFM22434MHZ
designator ?, comment Hope RF RFM22 ISM Transciever Module    The RFM22 is a low-power, low cost radio that is capable of operating in the 434MHz and 900MHz open bands. It's frequency is software defined and there are some very good libraries written for it.   SparkFun Products SparkFun RFM22 Shield - 434MHz (DEV-11018)
GateName_1: G$1; PROD_ID: IC-10007; SF_ID: WRL-10153; SymbolName_1: RFM22; DeviceName: 434MHZ; LibraryName: SparkFun-RF; DeviceSetName: RFM22; Package: RFM22-XXX-S2
footprint RFM22-XXX-S2
pins: 1 ANT (io), 2 GND@1 (power), 3 RXANT (in), 4 TXANT (in), 5 VCC (io), 6 GPIO0 (io), 7 GPIO1 (io), 8 GPIO2 (io), 9 GND@2 (power), 10 SDO (out), 11 SDI (in), 12 SCLK (in), 13 NSEL (in), 14 NIRQ (out), 15 SDN (in), 16 GND@3 (power)

## RFM22915MHZ
designator ?, comment Hope RF RFM22 ISM Transciever Module    The RFM22 is a low-power, low cost radio that is capable of operating in the 434MHz and 900MHz open bands. It's frequency is software defined and there are some very good libraries written for it.   SparkFun Products SparkFun RFM22 Shield - 434MHz (DEV-11018)
GateName_1: G$1; DeviceName: 915MHZ; PROD_ID: IC-11750; SF_ID: WRL-12030; SymbolName_1: RFM22; LibraryName: SparkFun-RF; DeviceSetName: RFM22; Package: RFM22-XXX-S2
footprint RFM22-XXX-S2
pins: 1 ANT (io), 2 GND@1 (power), 3 RXANT (in), 4 TXANT (in), 5 VCC (io), 6 GPIO0 (io), 7 GPIO1 (io), 8 GPIO2 (io), 9 GND@2 (power), 10 SDO (out), 11 SDI (in), 12 SCLK (in), 13 NSEL (in), 14 NIRQ (out), 15 SDN (in), 16 GND@3 (power)

## RFPA0133
designator IC?, comment IC PROG PWR AMP 16-QFN   Source:  Datasheet
MANUFACTURER_NAME: Qorvo; MANUFACTURER_PART_NUMBER: RFPA0133TR7; GateName_1: G$1; SymbolName_1: RFPA0133; PROD_ID: IC-15274; LibraryName: SparkFun-RF; DeviceSetName: RFPA0133; Package: QFN50P300X300X86-17N; MOUSER_PART_NUMBER: 772-RFPA0133
footprint QFN50P300X300X86-17N
pins: 1 NC@1, 2,EDAP GND (power), 3 RF_IN (in), 4 NC@4, 5 NC@5, 6 PD (in), 7 NC@7, 8 NC@8, 9 RF_OUT/VCC2@9 (out), 10 RF_OUT/VCC2@10 (out), 11 NC@11, 12 G8 (in), 13 G16 (in), 14 VCC1 (power), 15 NC@15, 16 VBIAS (power)

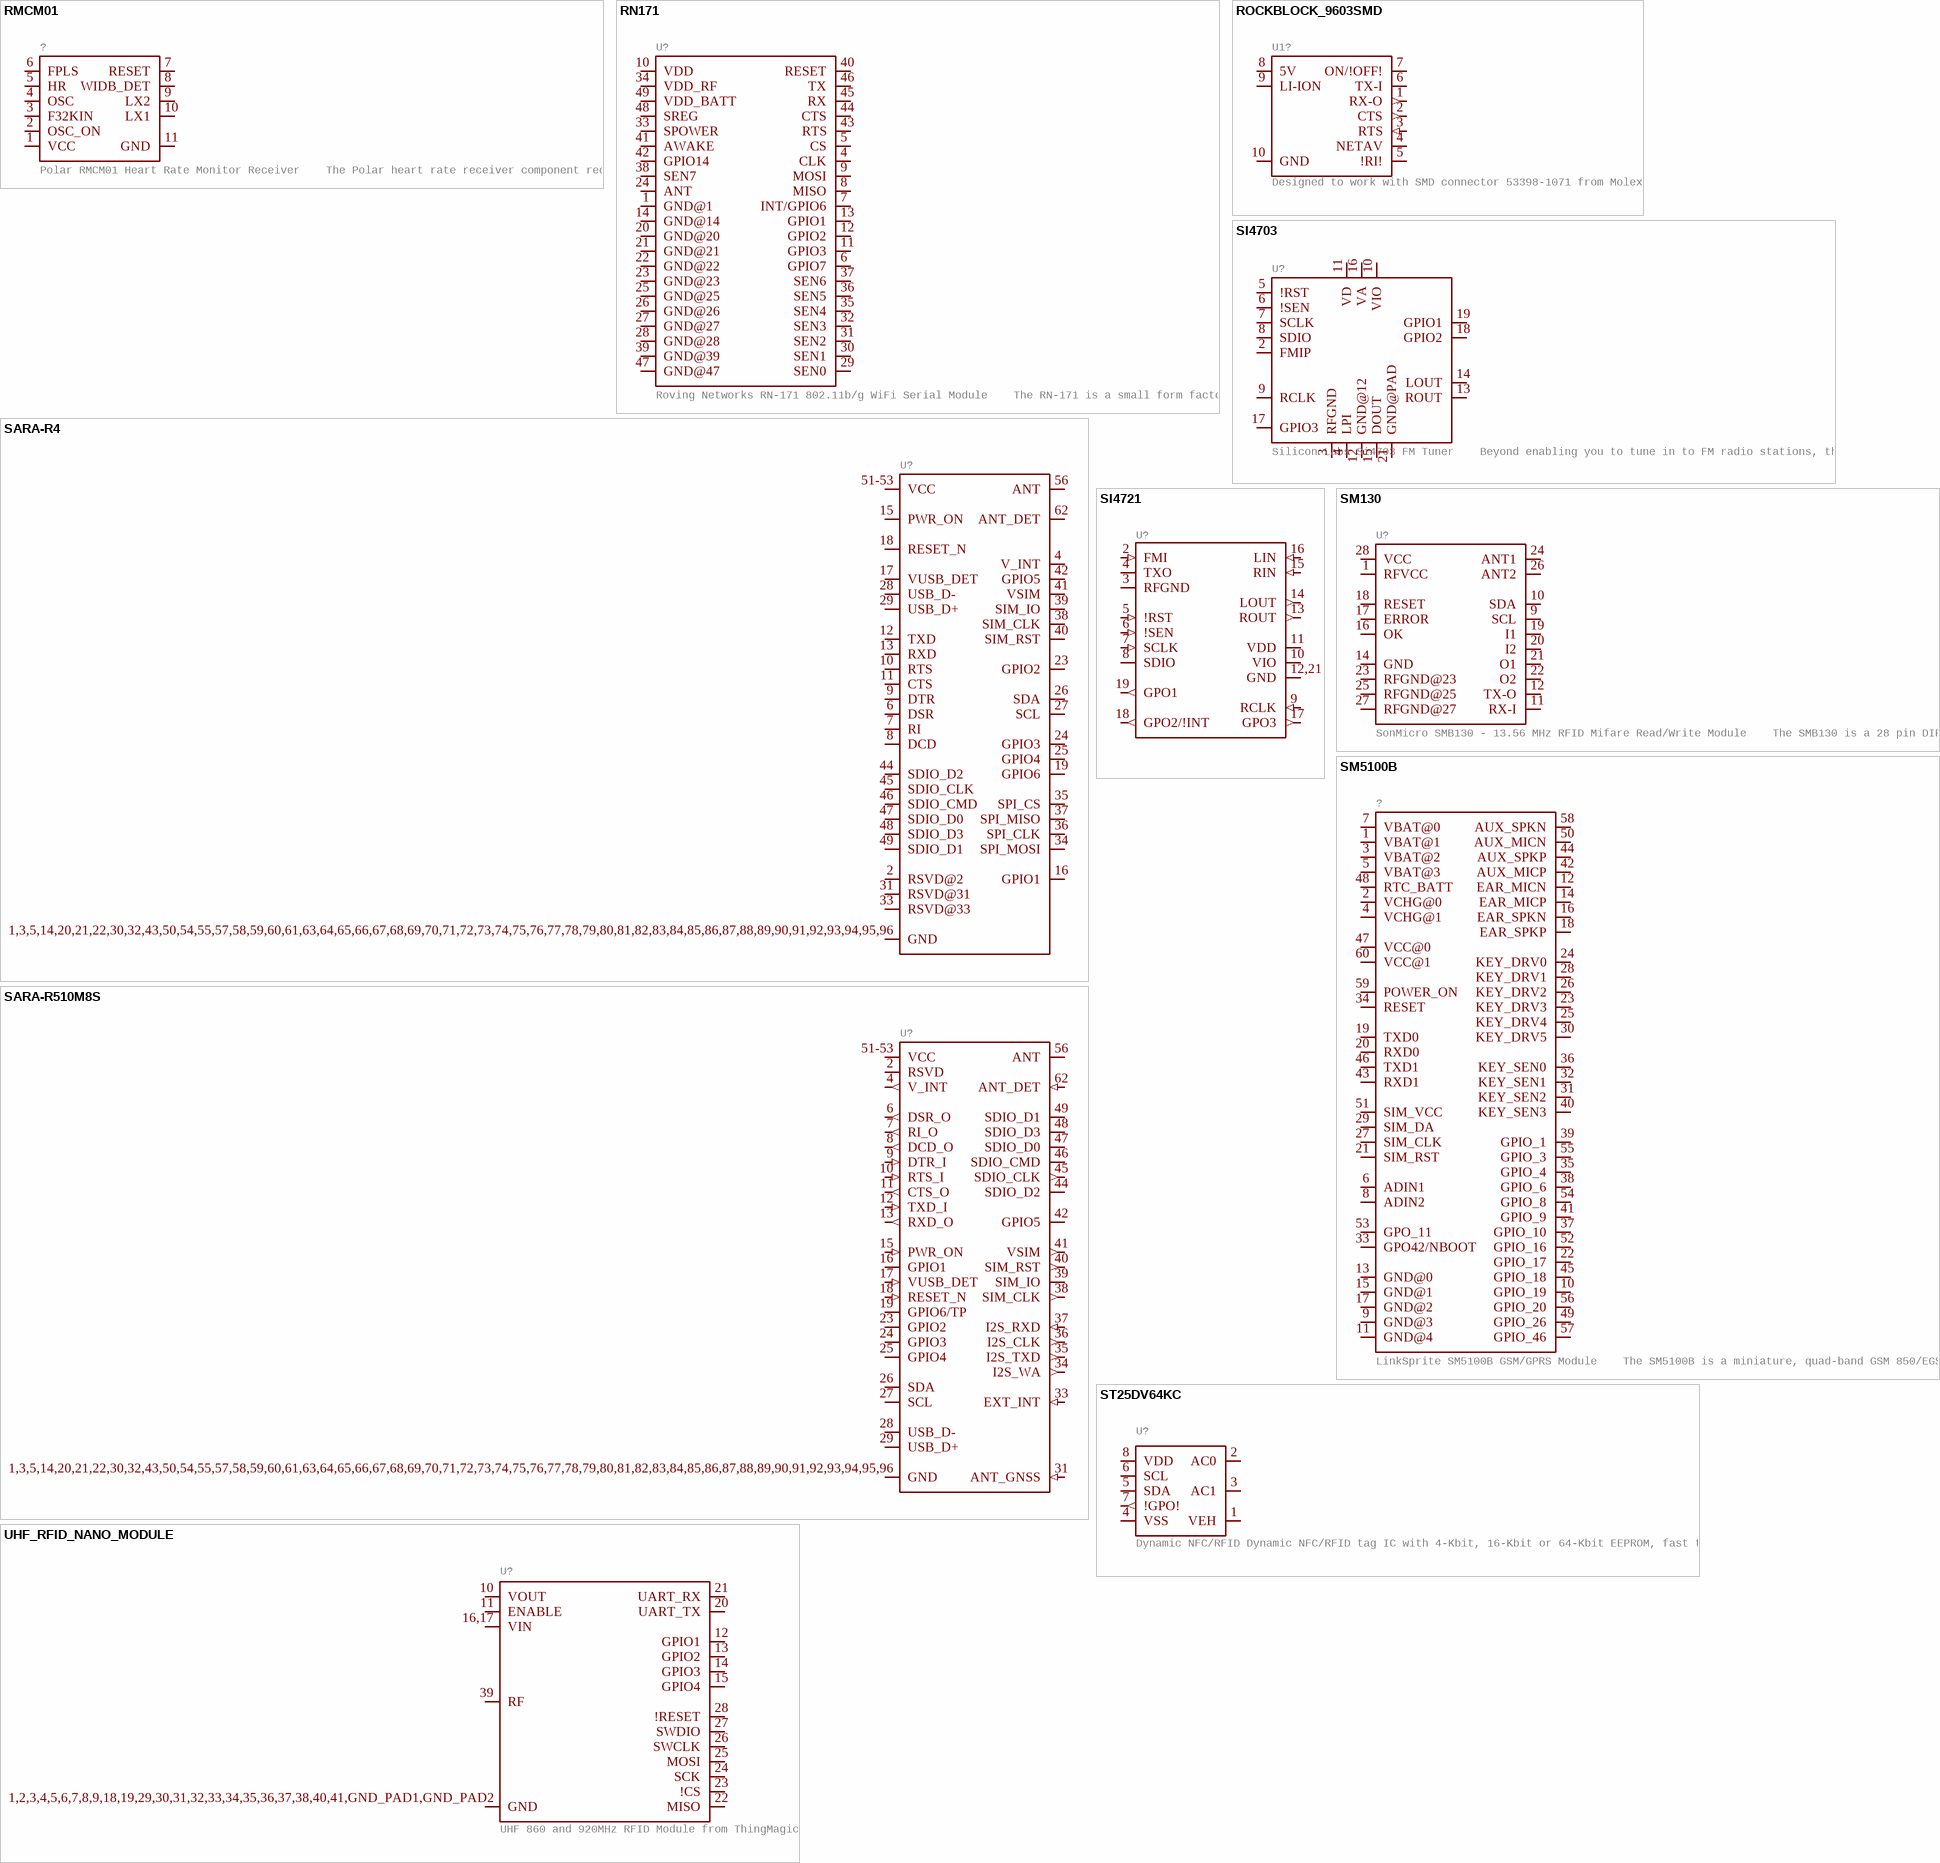
[diagram p9: symbols RMCM01 to UHF_RFID_NANO_MODULE]

## RMCM01
designator ?, comment Polar RMCM01 Heart Rate Monitor Receiver    The Polar heart rate receiver component receiver wirelessly receives the heart rate signal from Polar transmitter belt. The complete heart rate measurement system consists of three different parts; transmitter, receiver and electronics and/or display device that is outputting the heart rate value.   SparkFun Products Polar Heart Rate Monitor Interface (SEN-08661)
GateName_1: G$1; PROD_ID: COMP-08853; SymbolName_1: RMCM01; LibraryName: SparkFun-RF; DeviceSetName: RMCM01; Package: RMCM01
footprint RMCM01
pins: 1 VCC (io), 2 OSC_ON (io), 3 F32KIN (io), 4 OSC (io), 5 HR (io), 6 FPLS (io), 7 RESET (io), 8 WIDB_DET (io), 9 LX2 (io), 10 LX1 (io), 11 GND (io)

## RN171
designator U?, comment Roving Networks RN-171 802.11b/g WiFi Serial Module    The RN-171 is a small form factor, ultra-low power embedded TCP/IP module. The RN-171 is a standalone, complete TCP/IP wireless networking module. Due to its small form factor and extremely low power consumption, it is perfect for mobile wireless applications such as asset monitoring, sensors, and portable battery operated devices.   SparkFun Products WiFly RN-171 802.11b/g Serial Module (WRL-11049)
GateName_1: G$1; SymbolName_1: RN171; PROD_ID: IC-11000; LibraryName: SparkFun-RF; DeviceSetName: RN171; Package: RN171; SF_ID: WRL-11049
footprint RN171
pins: 1 GND@1 (io), 4 CLK (io), 5 CS (io), 6 GPIO7 (io), 7 INT/GPIO6 (io), 8 MISO (io), 9 MOSI (io), 10 VDD (io), 11 GPIO3 (io), 12 GPIO2 (io), 13 GPIO1 (io), 14 GND@14 (io), 20 GND@20 (io), 21 GND@21 (io), 22 GND@22 (io), 23 GND@23 (io), 24 ANT (io), 25 GND@25 (io), 26 GND@26 (io), 27 GND@27 (io), 28 GND@28 (io), 29 SEN0 (io), 30 SEN1 (io), 31 SEN2 (io), 32 SEN3 (io), 33 SPOWER (io), 34 VDD_RF (io), 35 SEN4 (io), 36 SEN5 (io), 37 SEN6 (io), 38 SEN7 (io), 39 GND@39 (io), 40 RESET (io), 41 AWAKE (io), 42 GPIO14 (io), 43 RTS (io), 44 CTS (io), 45 RX (io), 46 TX (io), 47 GND@47 (io), 48 SREG (io), 49 VDD_BATT (io)

## ROCKBLOCK_9603SMD
designator U1?, comment Designed to work with SMD connector 53398-1071 from Molex.
GateName_1: U1; SymbolName_1: ROCKBLOCK_9603; PROD_ID: CONN-14655; DeviceName: SMD; LibraryName: SparkFun-RF; DeviceSetName: ROCKBLOCK_9603; Package: 1X10-1.25MM-SMD
footprint 1X10-1.25MM-SMD
pins: 1 RX-O (out), 2 CTS (out), 3 RTS (in), 4 NETAV (io), 5 !RI! (io), 6 TX-I (io), 7 ON/!OFF! (io), 8 5V (io), 9 LI-ION (io), 10 GND (io)

## SARA-R4
designator U?
GateName_1: G$1; SymbolName_1: SARA-R4; PROD_ID: IC-14085; LibraryName: SparkFun-RF; DeviceSetName: SARA-R4; Package: SARA-LGA
footprint SARA-LGA
pins: 1,3,5,14,20,21,22,30,32,43,50,54,55,57,58,59,60,61,63,64,65,66,67,68,69,70,71,72,73,74,75,76,77,78,79,80,81,82,83,84,85,86,87,88,89,90,91,92,93,94,95,96 GND (io), 2 RSVD@2 (io), 4 V_INT (io), 6 DSR (io), 7 RI (io), 8 DCD (io), 9 DTR (io), 10 RTS (io), 11 CTS (io), 12 TXD (io), 13 RXD (io), 15 PWR_ON (io), 16 GPIO1 (io), 17 VUSB_DET (io), 18 RESET_N (io), 19 GPIO6 (io), 23 GPIO2 (io), 24 GPIO3 (io), 25 GPIO4 (io), 26 SDA (io), 27 SCL (io), 28 USB_D- (io), 29 USB_D+ (io), 31 RSVD@31 (io), 33 RSVD@33 (io), 34 SPI_MOSI (io), 35 SPI_CS (io), 36 SPI_CLK (io), 37 SPI_MISO (io), 38 SIM_CLK (io), 39 SIM_IO (io), 40 SIM_RST (io), 41 VSIM (io), 42 GPIO5 (io), 44 SDIO_D2 (io), 45 SDIO_CLK (io), 46 SDIO_CMD (io), 47 SDIO_D0 (io), 48 SDIO_D3 (io), 49 SDIO_D1 (io), 51-53 VCC (io), 56 ANT (io), 62 ANT_DET (io)

## SARA-R510M8S
designator U?
GateName_1: G$2; SymbolName_1: SARA-R5; DeviceSetName: SARA-R510M8S; PROD_ID: IC-15573; LibraryName: SparkFun-RF; Package: SARA-LGA
footprint SARA-LGA
pins: 1,3,5,14,20,21,22,30,32,43,50,54,55,57,58,59,60,61,63,64,65,66,67,68,69,70,71,72,73,74,75,76,77,78,79,80,81,82,83,84,85,86,87,88,89,90,91,92,93,94,95,96 GND (power), 2 RSVD, 4 V_INT (out), 6 DSR_O (out), 7 RI_O (out), 8 DCD_O (out), 9 DTR_I (in), 10 RTS_I (in), 11 CTS_O (out), 12 TXD_I (in), 13 RXD_O (out), 15 PWR_ON (in), 16 GPIO1 (io), 17 VUSB_DET (in), 18 RESET_N (in), 19 GPIO6/TP (io), 23 GPIO2 (io), 24 GPIO3 (io), 25 GPIO4 (io), 26 SDA (io), 27 SCL (io), 28 USB_D- (io), 29 USB_D+ (io), 31 ANT_GNSS (in), 33 EXT_INT (in), 34 I2S_WA (out), 35 I2S_TXD (out), 36 I2S_CLK (out), 37 I2S_RXD (in), 38 SIM_CLK (out), 39 SIM_IO (io), 40 SIM_RST (out), 41 VSIM (out), 42 GPIO5 (io), 44 SDIO_D2 (io), 45 SDIO_CLK (out), 46 SDIO_CMD (io), 47 SDIO_D0 (io), 48 SDIO_D3 (io), 49 SDIO_D1 (io), 51-53 VCC (power), 56 ANT (io), 62 ANT_DET (in)

## SI4703
designator U?, comment Silicon Labs Si4703 FM Tuner    Beyond enabling you to tune in to FM radio stations, the Si4703 is also capable of detecting and processing both Radio Data Service (RDS) and Radio Broadcast Data Service (RBDS) information. The Si4703 even does a very good job of filtering and carrier detection. It also enables data such as the station ID and song name to be displayed to the user.   SparkFun Products SparkFun FM Tuner Evaluation Board - Si4703 (WRL-12938)  SparkFun FM Tuner Basic Breakout - Si4703 (WRL-11083)  FabFM Radio Kit  (KIT-11043)
GateName_1: G$1; SymbolName_1: SI470X; PROD_ID: IC-10150; LibraryName: SparkFun-RF; DeviceSetName: SI4703; Package: QFN-20-3X3MM
footprint QFN-20-3X3MM
pins: 2 FMIP (io), 3 RFGND (io), 4 LPI (io), 5 !RST (io), 6 !SEN (io), 7 SCLK (io), 8 SDIO (io), 9 RCLK (io), 10 VIO (io), 11 VD (io), 12 GND@12 (io), 13 ROUT (io), 14 LOUT (io), 15 DOUT (io), 16 VA (io), 17 GPIO3 (io), 18 GPIO2 (io), 19 GPIO1 (io), 21 GND@PAD (io)

## SI4721
designator U?
GateName_1: G$1; SymbolName_1: SI472X; DeviceSetName: SI4721; LibraryName: SparkFun-RF; Package: QFN-20-3X3MM
footprint QFN-20-3X3MM
pins: 2 FMI (in), 3 RFGND (power), 4 TXO (io), 5 !RST (in), 6 !SEN (in), 7 SCLK (in), 8 SDIO (io), 9 RCLK (in), 10 VIO (power), 11 VDD (power), 12,21 GND (power), 13 ROUT (out), 14 LOUT (out), 15 RIN (in), 16 LIN (in), 17 GPO3 (out), 18 GPO2/!INT (out), 19 GPO1 (out)

## SM130
designator U?, comment SonMicro SMB130 - 13.56 MHz RFID Mifare Read/Write Module    The SMB130 is a 28 pin DIP module that includes all necessary components for a 13.56 MHz RFID MIFAREÂ®, aside from a PCB antenna. SparkFun Products  RFID Module - SM130 MIFAREÂ® (13.56 MHz)  (SEN-10126)
GateName_1: G$1; PROD_ID: LPA-12905; SymbolName_1: SM130; LibraryName: SparkFun-RF; DeviceSetName: SM130; Package: SM130
footprint SM130
pins: 1 RFVCC (io), 9 SCL (io), 10 SDA (io), 11 RX-I (io), 12 TX-O (io), 14 GND (io), 16 OK (io), 17 ERROR (io), 18 RESET (io), 19 I1 (io), 20 I2 (io), 21 O1 (io), 22 O2 (io), 23 RFGND@23 (io), 24 ANT1 (io), 25 RFGND@25 (io), 26 ANT2 (io), 27 RFGND@27 (io), 28 VCC (io)

## SM5100B
designator ?, comment LinkSprite SM5100B GSM/GPRS Module    The SM5100B is a miniature, quad-band GSM 850/EGSM 900/DCS 1800/PCS 1900 module, which can be integrated into a great number of wireless projects. You can use this module to accomplish almost anything a normal cell phone can - SMS text messages, GSM/GPRS, TCP/IP, and more! SparkFun Products  GSM/GPRS Module - SM5100B (CEL-09533)
GateName_1: G$1; PROD_ID: CONN-09315; SymbolName_1: SM5100B; LibraryName: SparkFun-RF; DeviceSetName: SM5100B; Package: SM5100B
footprint SM5100B
pins: 1 VBAT@1 (io), 2 VCHG@0 (io), 3 VBAT@2 (io), 4 VCHG@1 (io), 5 VBAT@3 (io), 6 ADIN1 (io), 7 VBAT@0 (io), 8 ADIN2 (io), 9 GND@3 (io), 10 GPIO_19 (io), 11 GND@4 (io), 12 EAR_MICN (io), 13 GND@0 (io), 14 EAR_MICP (io), 15 GND@1 (io), 16 EAR_SPKN (io), 17 GND@2 (io), 18 EAR_SPKP (io), 19 TXD0 (io), 20 RXD0 (io), 21 SIM_RST (io), 22 GPIO_17 (io), 23 KEY_DRV3 (io), 24 KEY_DRV0 (io), 25 KEY_DRV4 (io), 26 KEY_DRV2 (io), 27 SIM_CLK (io), 28 KEY_DRV1 (io), 29 SIM_DA (io), 30 KEY_DRV5 (io), 31 KEY_SEN2 (io), 32 KEY_SEN1 (io), 33 GPO42/NBOOT (io), 34 RESET (io), 35 GPIO_4 (io), 36 KEY_SEN0 (io), 37 GPIO_10 (io), 38 GPIO_6 (io), 39 GPIO_1 (io), 40 KEY_SEN3 (io), 41 GPIO_9 (io), 42 AUX_MICP (io), 43 RXD1 (io), 44 AUX_SPKP (io), 45 GPIO_18 (io), 46 TXD1 (io), 47 VCC@0 (io), 48 RTC_BATT (io), 49 GPIO_26 (io), 50 AUX_MICN (io), 51 SIM_VCC (io), 52 GPIO_16 (io), 53 GPO_11 (io), 54 GPIO_8 (io), 55 GPIO_3 (io), 56 GPIO_20 (io), 57 GPIO_46 (io), 58 AUX_SPKN (io), 59 POWER_ON (io), 60 VCC@1 (io)

## ST25DV64KC
designator U?, comment Dynamic NFC/RFID Dynamic NFC/RFID tag IC with 4-Kbit, 16-Kbit or 64-Kbit EEPROM, fast transfer mode capability and optimized I2C.
GateName_1: G$1; SymbolName_1: ST25DV64KC; PROD_ID: IC-16315; LibraryName: SparkFun-RF; DeviceSetName: ST25DV64KC; Package: SO08
footprint SO08
pins: 1 VEH (power), 2 AC0 (io), 3 AC1 (io), 4 VSS (power), 5 SDA (io), 6 SCL (io), 7 !GPO! (out), 8 VDD (power)

## UHF_RFID_NANO_MODULE
designator U?, comment UHF 860 and 920MHz RFID Module from ThingMagic
GateName_1: U1; SymbolName_1: UHF_RFID_NANO_MODULE; PROD_ID: IC-13540; LibraryName: SparkFun-RF; DeviceSetName: UHF_RFID_NANO_MODULE; Package: NANO_MODULE
footprint NANO_MODULE
pins: 1,2,3,4,5,6,7,8,9,18,19,29,30,31,32,33,34,35,36,37,38,40,41,GND_PAD1,GND_PAD2 GND (io), 10 VOUT (io), 11 ENABLE (io), 12 GPIO1 (io), 13 GPIO2 (io), 14 GPIO3 (io), 15 GPIO4 (io), 16,17 VIN (io), 20 UART_TX (io), 21 UART_RX (io), 22 MISO (io), 23 !CS (io), 24 SCK (io), 25 MOSI (io), 26 SWCLK (io), 27 SWDIO (io), 28 !RESET (io), 39 RF (io)

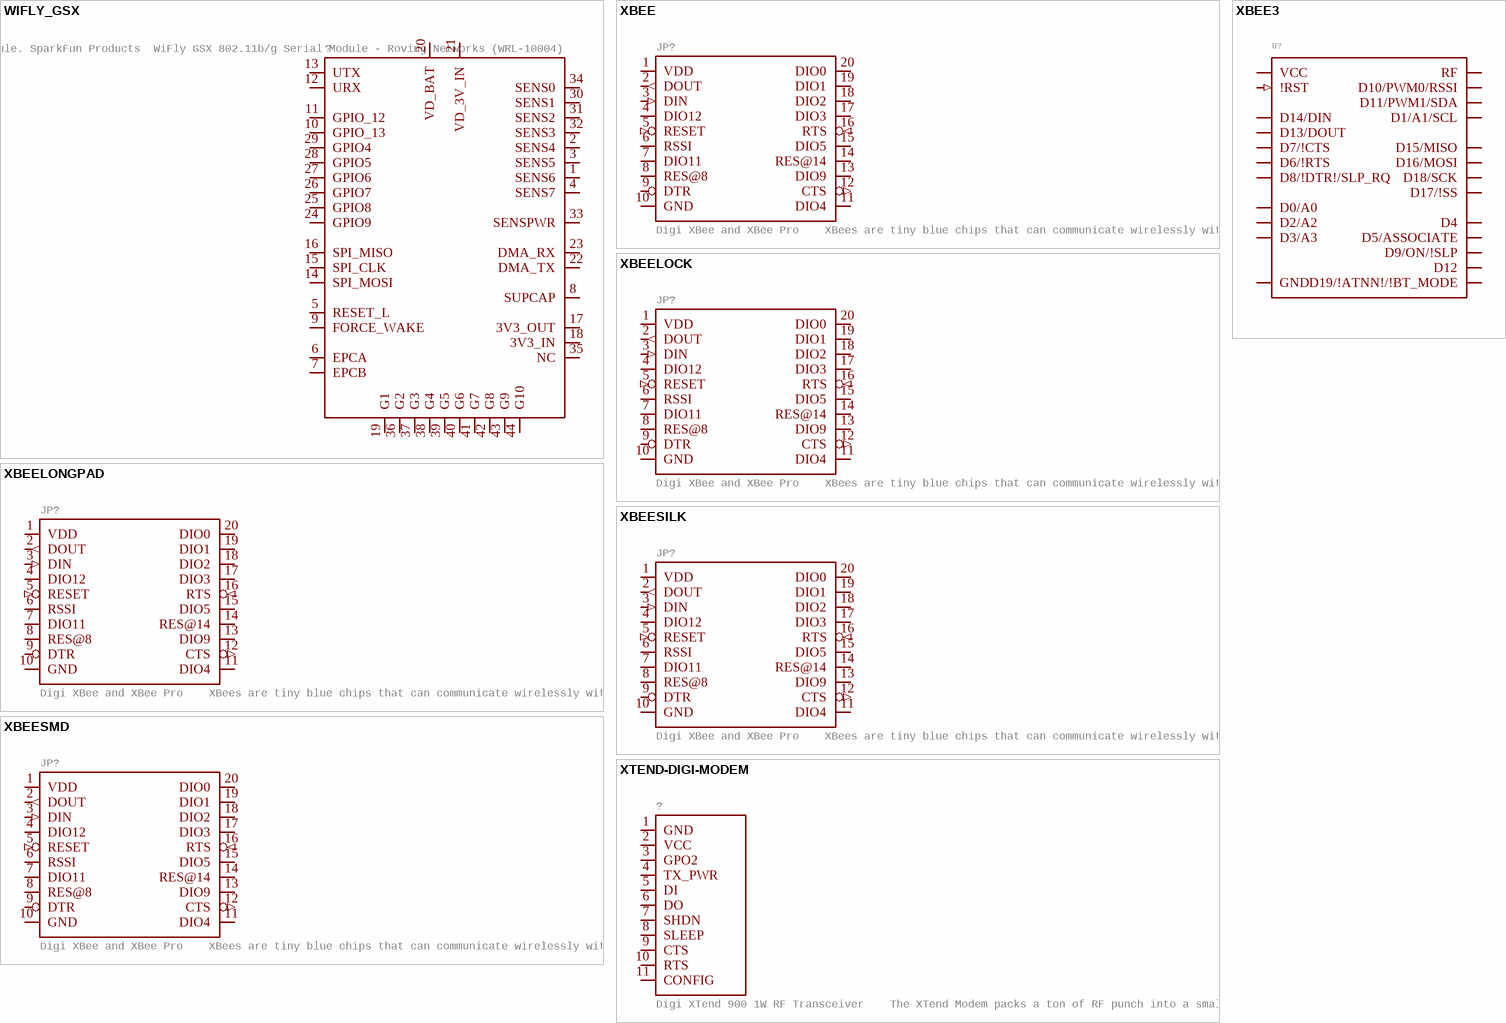
[diagram p10: symbols WIFLY_GSX to XTEND-DIGI-MODEM]

## WIFLY_GSX
designator ?, comment Roving Networks WiFly GSX (RN-131C) Wi-Fi Module    The WiFly GSX (RN-131C) module is a complete ultra low power embedded TCP/IP solution. The WiFly GSX module is a stand alone, embedded wireless 802.11b/g networking module. SparkFun Products  WiFly GSX 802.11b/g Serial Module - Roving Networks (WRL-10004)
GateName_1: G$1; SymbolName_1: WIFLY_GSX; PROD_ID: IC-12671; SF_ID: WRL-13525; LibraryName: SparkFun-RF; DeviceSetName: WIFLY_GSX; Package: WIFLY_GSX
footprint WIFLY_GSX
pins: 1 SENS6 (io), 2 SENS4 (io), 3 SENS5 (io), 4 SENS7 (io), 5 RESET_L (io), 6 EPCA (io), 7 EPCB (io), 8 SUPCAP (io), 9 FORCE_WAKE (io), 10 GPIO_13 (io), 11 GPIO_12 (io), 12 URX (io), 13 UTX (io), 14 SPI_MOSI (io), 15 SPI_CLK (io), 16 SPI_MISO (io), 17 3V3_OUT (io), 18 3V3_IN (io), 19 G1 (io), 20 VD_BAT (io), 21 VD_3V_IN (io), 22 DMA_TX (io), 23 DMA_RX (io), 24 GPIO9 (io), 25 GPIO8 (io), 26 GPIO7 (io), 27 GPIO6 (io), 28 GPIO5 (io), 29 GPIO4 (io), 30 SENS1 (io), 31 SENS2 (io), 32 SENS3 (io), 33 SENSPWR (io), 34 SENS0 (io), 35 NC (io), 36 G2 (io), 37 G3 (io), 38 G4 (io), 39 G5 (io), 40 G6 (io), 41 G7 (io), 42 G8 (io), 43 G9 (io), 44 G10 (io)

## XBEE
designator JP?, comment Digi XBee and XBee Pro    XBees are tiny blue chips that can communicate wirelessly with each other. They can do simple things, like replacing a couple of wires in serial communication, which is nice when you want to make a remote for your paintball vehicle. SparkFun Products  SparkFun XBee Buying Guide  SparkFun XBee Explorer USB (WRL-11812)  Breakout Board for XBee Module (WRL-8276)  SparkFun XBee Explorer Regulated (WRL-11373)  SparkFun XBee Explorer Dongle (WRL-11697)  SparkFun XBee Shield (WRL-12847)  SparkFun XBee Explorer Serial (WRL-13225)
GateName_1: G$1; SymbolName_1: XBEE; LibraryName: SparkFun-RF; DeviceSetName: XBEE; Package: XBEE
footprint XBEE
pins: 1 VDD (power), 2 DOUT (out), 3 DIN (in), 4 DIO12 (io), 5 RESET (in), 6 RSSI (io), 7 DIO11 (io), 8 RES@8 (io), 9 DTR (io), 10 GND (power), 11 DIO4 (io), 12 CTS (out), 13 DIO9 (io), 14 RES@14 (io), 15 DIO5 (io), 16 RTS (in), 17 DIO3 (io), 18 DIO2 (io), 19 DIO1 (io), 20 DIO0 (io)

## XBEE3
designator U?
GateName_1: G$1; SymbolName_1: XBEE3; PROD_ID: WRL-14444/ WRL-14467; LibraryName: SparkFun-RF; DeviceSetName: XBEE3; Package: XBEE3-SMD
footprint XBEE3-SMD
pins: P$1,10,12,21,32,34 GND (io), P$2 VCC (io), P$3 D13/DOUT (io), P$4 D14/DIN (io), P$5 D12 (io), P$6 !RST (in), P$7 D10/PWM0/RSSI (io), P$8 D11/PWM1/SDA (io), P$9 D8/!DTR!/SLP_RQ (io), P$11 D19/!ATNN!/!BT_MODE (io), P$13 D18/SCK (io), P$14 D17/!SS (io), P$15 D16/MOSI (io), P$16 D15/MISO (io), P$23 D4 (io), P$24 D7/!CTS (io), P$25 D9/ON/!SLP (io), P$26 D5/ASSOCIATE (io), P$27 D6/!RTS (io), P$28 D3/A3 (io), P$29 D2/A2 (io), P$30 D1/A1/SCL (io), P$31 D0/A0 (io), P$33 RF (io)

## XBEELOCK
designator JP?, comment Digi XBee and XBee Pro    XBees are tiny blue chips that can communicate wirelessly with each other. They can do simple things, like replacing a couple of wires in serial communication, which is nice when you want to make a remote for your paintball vehicle. SparkFun Products  SparkFun XBee Buying Guide  SparkFun XBee Explorer USB (WRL-11812)  Breakout Board for XBee Module (WRL-8276)  SparkFun XBee Explorer Regulated (WRL-11373)  SparkFun XBee Explorer Dongle (WRL-11697)  SparkFun XBee Shield (WRL-12847)  SparkFun XBee Explorer Serial (WRL-13225)
GateName_1: G$1; DeviceName: LOCK; SymbolName_1: XBEE; LibraryName: SparkFun-RF; DeviceSetName: XBEE; Package: XBEE-LOCK
footprint XBEE-LOCK
pins: 1 VDD (power), 2 DOUT (out), 3 DIN (in), 4 DIO12 (io), 5 RESET (in), 6 RSSI (io), 7 DIO11 (io), 8 RES@8 (io), 9 DTR (io), 10 GND (power), 11 DIO4 (io), 12 CTS (out), 13 DIO9 (io), 14 RES@14 (io), 15 DIO5 (io), 16 RTS (in), 17 DIO3 (io), 18 DIO2 (io), 19 DIO1 (io), 20 DIO0 (io)

## XBEELONGPAD
designator JP?, comment Digi XBee and XBee Pro    XBees are tiny blue chips that can communicate wirelessly with each other. They can do simple things, like replacing a couple of wires in serial communication, which is nice when you want to make a remote for your paintball vehicle. SparkFun Products  SparkFun XBee Buying Guide  SparkFun XBee Explorer USB (WRL-11812)  Breakout Board for XBee Module (WRL-8276)  SparkFun XBee Explorer Regulated (WRL-11373)  SparkFun XBee Explorer Dongle (WRL-11697)  SparkFun XBee Shield (WRL-12847)  SparkFun XBee Explorer Serial (WRL-13225)
GateName_1: G$1; DeviceName: LONGPAD; SymbolName_1: XBEE; LibraryName: SparkFun-RF; DeviceSetName: XBEE; Package: XBEE-LONGPAD
footprint XBEE-LONGPAD
pins: 1 VDD (power), 2 DOUT (out), 3 DIN (in), 4 DIO12 (io), 5 RESET (in), 6 RSSI (io), 7 DIO11 (io), 8 RES@8 (io), 9 DTR (io), 10 GND (power), 11 DIO4 (io), 12 CTS (out), 13 DIO9 (io), 14 RES@14 (io), 15 DIO5 (io), 16 RTS (in), 17 DIO3 (io), 18 DIO2 (io), 19 DIO1 (io), 20 DIO0 (io)

## XBEESILK
designator JP?, comment Digi XBee and XBee Pro    XBees are tiny blue chips that can communicate wirelessly with each other. They can do simple things, like replacing a couple of wires in serial communication, which is nice when you want to make a remote for your paintball vehicle. SparkFun Products  SparkFun XBee Buying Guide  SparkFun XBee Explorer USB (WRL-11812)  Breakout Board for XBee Module (WRL-8276)  SparkFun XBee Explorer Regulated (WRL-11373)  SparkFun XBee Explorer Dongle (WRL-11697)  SparkFun XBee Shield (WRL-12847)  SparkFun XBee Explorer Serial (WRL-13225)
GateName_1: G$1; DeviceName: SILK; SymbolName_1: XBEE; LibraryName: SparkFun-RF; DeviceSetName: XBEE; Package: XBEE-SILK
footprint XBEE-SILK
pins: 1 VDD (power), 2 DOUT (out), 3 DIN (in), 4 DIO12 (io), 5 RESET (in), 6 RSSI (io), 7 DIO11 (io), 8 RES@8 (io), 9 DTR (io), 10 GND (power), 11 DIO4 (io), 12 CTS (out), 13 DIO9 (io), 14 RES@14 (io), 15 DIO5 (io), 16 RTS (in), 17 DIO3 (io), 18 DIO2 (io), 19 DIO1 (io), 20 DIO0 (io)

## XBEESMD
designator JP?, comment Digi XBee and XBee Pro    XBees are tiny blue chips that can communicate wirelessly with each other. They can do simple things, like replacing a couple of wires in serial communication, which is nice when you want to make a remote for your paintball vehicle. SparkFun Products  SparkFun XBee Buying Guide  SparkFun XBee Explorer USB (WRL-11812)  Breakout Board for XBee Module (WRL-8276)  SparkFun XBee Explorer Regulated (WRL-11373)  SparkFun XBee Explorer Dongle (WRL-11697)  SparkFun XBee Shield (WRL-12847)  SparkFun XBee Explorer Serial (WRL-13225)
GateName_1: G$1; DeviceName: SMD; PROD_ID: CONN-09042; SymbolName_1: XBEE; LibraryName: SparkFun-RF; DeviceSetName: XBEE; Package: XBEE-SMD
footprint XBEE-SMD
pins: 1 VDD (power), 2 DOUT (out), 3 DIN (in), 4 DIO12 (io), 5 RESET (in), 6 RSSI (io), 7 DIO11 (io), 8 RES@8 (io), 9 DTR (io), 10 GND (power), 11 DIO4 (io), 12 CTS (out), 13 DIO9 (io), 14 RES@14 (io), 15 DIO5 (io), 16 RTS (in), 17 DIO3 (io), 18 DIO2 (io), 19 DIO1 (io), 20 DIO0 (io)

## XTEND-DIGI-MODEM
designator ?, comment Digi XTend 900 1W RF Transceiver    The XTend Modem packs a ton of RF punch into a small, low-power, easy-to-use, and reliable module. Outdoors, with line-of-sight, this module can communicate at up to 40 miles; indoors it can still do up to 3000ft. The module transfers a standard asynchronous serial data stream, operates within the ISM 900MHz frequency band and sustains up to 115.2kbps data throughput. The module comes with an attached RPSMA antenna connector. SparkFun Products  XTend 900 1W RPSMA - 40 Mile Range (WRL-09411)
GateName_1: G$1; SymbolName_1: XTEND-DIGI-MODEM; LibraryName: SparkFun-RF; DeviceSetName: XTEND-DIGI-MODEM; Package: XTEND-DIGI-MODEM; SF_ID: WRL-09411
footprint XTEND-DIGI-MODEM
pins: 1 GND (io), 2 VCC (io), 3 GPO2 (io), 4 TX_PWR (io), 5 DI (io), 6 DO (io), 7 SHDN (io), 8 SLEEP (io), 9 CTS (io), 10 RTS (io), 11 CONFIG (io)